# Altium schematic symbol library Wurth_Elektronik_Electromechanic_Wire_to_Board_Connectors_rev16a.SCHLIB: 662 symbols (part 7 of 10)
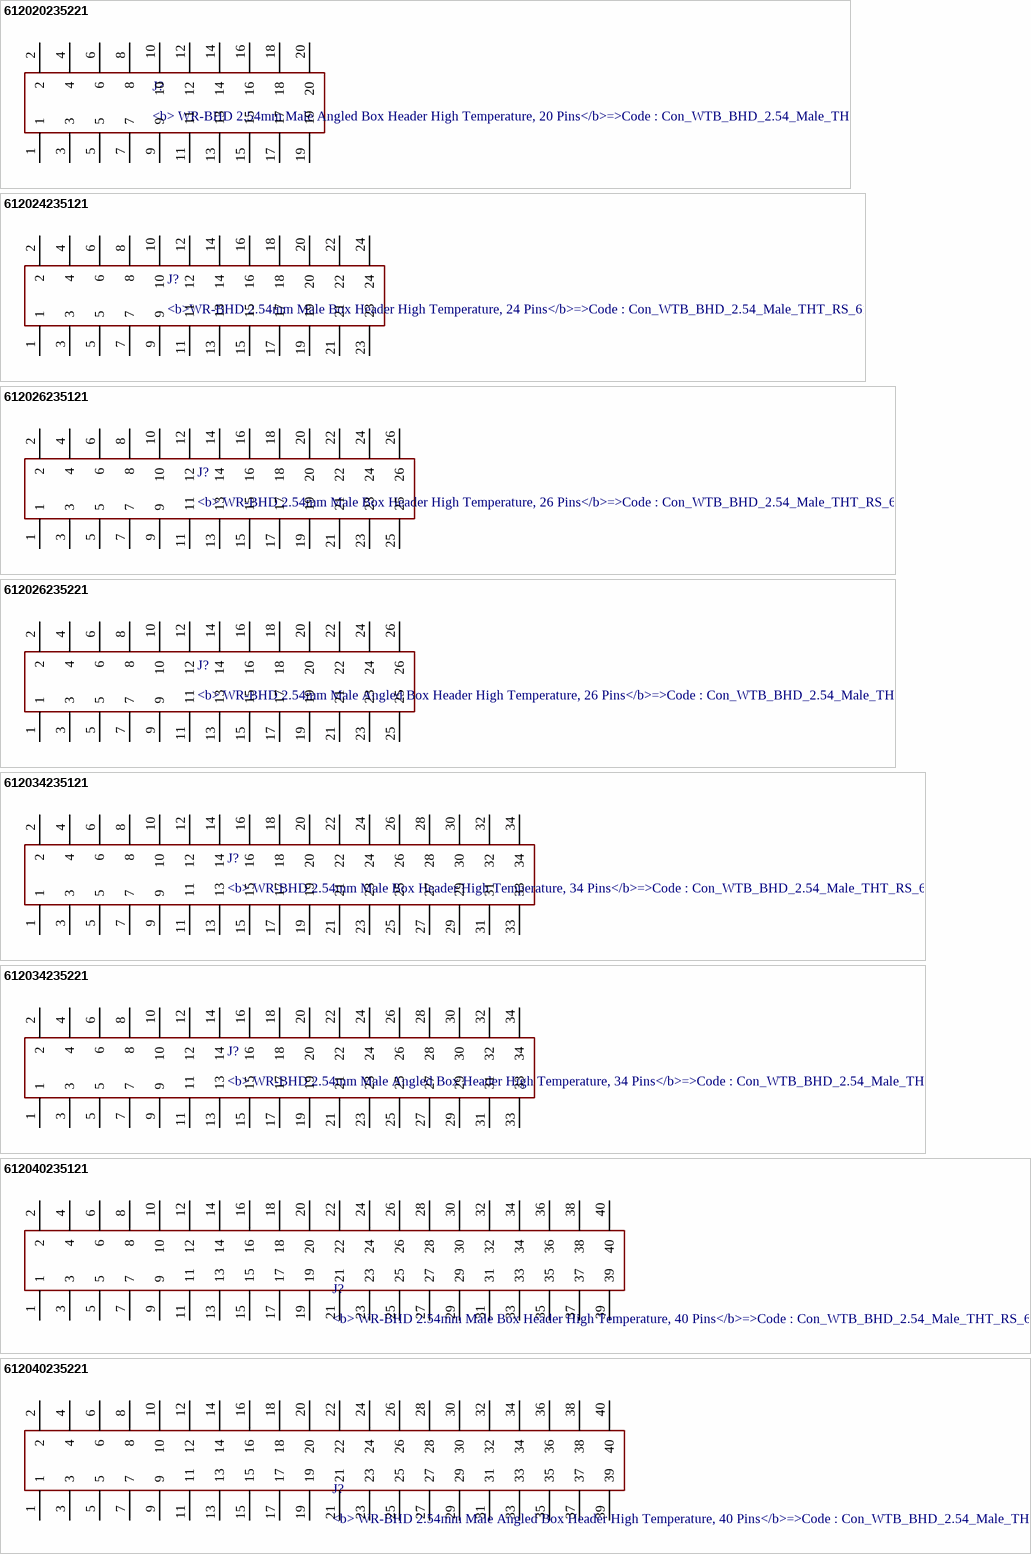
[diagram p68: symbols 612020235221 to 612040235221]

## 612024235121
designator J?, comment <b>WR-BHD 2.54mm Male Box Header High Temperature, 24 Pins</b>=>Code : Con_WTB_BHD_2.54_Male_THT_RS_612024235121 / <br><a href="http://katalog.we-online.de/media/thumbs2/eican/thb_Con_WTB_BHD_2.54_Male_THT_RS_6120xx235121_pf2.jpg" title="Enlarge picture"> / <img src="http://katalog.we-online.de/media/thumbs2/eican/thb_Con_WTB_BHD_2.54_Male_THT_RS_6120xx235121_pf2.jpg"  width="320"></a><p> / Details see: <a href="http://katalog.we-online.de/en/em/612_0xx_235_121">http://katalog.we-online.de/en/em/612_0xx_235_121</a><p> / Created 2014-06-05, Karrer Zheng<br> / 2014 (C) Würth Elektronik
footprint 612024235121
pins: 1, 2, 3, 4, 5, 6, 7, 8, 9, 10, 11, 12, 13, 14, 15, 16, 17, 18, 19, 20, 21, 22, 23, 24

## 612026235121
designator J?, comment <b> WR-BHD 2.54mm Male Box Header High Temperature, 26 Pins</b>=>Code : Con_WTB_BHD_2.54_Male_THT_RS_612026235121 / <br><a href="http://katalog.we-online.de/media/thumbs2/eican/thb_Con_WTB_BHD_2.54_Male_THT_RS_6120xx235121_pf2.jpg" title="Enlarge picture"> / <img src="http://katalog.we-online.de/media/thumbs2/eican/thb_Con_WTB_BHD_2.54_Male_THT_RS_6120xx235121_pf2.jpg"  width="320"></a><p> / Details see: <a href="http://katalog.we-online.de/en/em/612_0xx_235_121">http://katalog.we-online.de/en/em/612_0xx_235_121</a><p> / Created 2014-06-05, Karrer Zheng<br> / 2014 (C) Würth Elektronik
footprint 612026235121
pins: 1, 2, 3, 4, 5, 6, 7, 8, 9, 10, 11, 12, 13, 14, 15, 16, 17, 18, 19, 20, 21, 22, 23, 24, 25, 26

## 612026235221
designator J?, comment <b> WR-BHD 2.54mm Male Angled Box Header High Temperature, 26 Pins</b>=>Code : Con_WTB_BHD_2.54_Male_THT_RS_612026235221 / <br><a href="http://katalog.we-online.de/media/thumbs2/eican/thb_Con_WTB_BHD_2.54_Male_THT_RS_6120xx235221_pf2.jpg" title="Enlarge picture"> / <img src="http://katalog.we-online.de/media/thumbs2/eican/thb_Con_WTB_BHD_2.54_Male_THT_RS_6120xx235221_pf2.jpg"  width="320"></a><p> / Details see: <a href="http://katalog.we-online.de/en/em/612_0xx_235_221">http://katalog.we-online.de/en/em/612_0xx_235_221</a><p> / Created 2014-06-05, Karrer Zheng<br> / 2014 (C) Würth Elektronik
footprint 612026235221
pins: 1, 2, 3, 4, 5, 6, 7, 8, 9, 10, 11, 12, 13, 14, 15, 16, 17, 18, 19, 20, 21, 22, 23, 24, 25, 26

## 612034235121
designator J?, comment <b> WR-BHD 2.54mm Male Box Header High Temperature, 34 Pins</b>=>Code : Con_WTB_BHD_2.54_Male_THT_RS_612034235121 / <br><a href="http://katalog.we-online.de/media/thumbs2/eican/thb_Con_WTB_BHD_2.54_Male_THT_RS_6120xx235121_pf2.jpg" title="Enlarge picture"> / <img src="http://katalog.we-online.de/media/thumbs2/eican/thb_Con_WTB_BHD_2.54_Male_THT_RS_6120xx235121_pf2.jpg"  width="320"></a><p> / Details see: <a href="http://katalog.we-online.de/en/em/612_0xx_235_121">http://katalog.we-online.de/en/em/612_0xx_235_121</a><p> / Created 2014-06-05, Karrer Zheng<br> / 2014 (C) Würth Elektronik
footprint 612034235121
pins: 1, 2, 3, 4, 5, 6, 7, 8, 9, 10, 11, 12, 13, 14, 15, 16, 17, 18, 19, 20, 21, 22, 23, 24, 25, 26, 27, 28, 29, 30, 31, 32, 33, 34

## 612034235221
designator J?, comment <b> WR-BHD 2.54mm Male Angled Box Header High Temperature, 34 Pins</b>=>Code : Con_WTB_BHD_2.54_Male_THT_RS_612034235221 / <br><a href="http://katalog.we-online.de/media/thumbs2/eican/thb_Con_WTB_BHD_2.54_Male_THT_RS_6120xx235221_pf2.jpg" title="Enlarge picture"> / <img src="http://katalog.we-online.de/media/thumbs2/eican/thb_Con_WTB_BHD_2.54_Male_THT_RS_6120xx235221_pf2.jpg"  width="320"></a><p> / Details see: <a href="http://katalog.we-online.de/en/em/612_0xx_235_221">http://katalog.we-online.de/en/em/612_0xx_235_221</a><p> / Created 2014-06-05, Karrer Zheng<br> / 2014 (C) Würth Elektronik
footprint 612034235221
pins: 1, 2, 3, 4, 5, 6, 7, 8, 9, 10, 11, 12, 13, 14, 15, 16, 17, 18, 19, 20, 21, 22, 23, 24, 25, 26, 27, 28, 29, 30, 31, 32, 33, 34

## 612040235121
designator J?, comment <b> WR-BHD 2.54mm Male Box Header High Temperature, 40 Pins</b>=>Code : Con_WTB_BHD_2.54_Male_THT_RS_612040235121 / <br><a href="http://katalog.we-online.de/media/thumbs2/eican/thb_Con_WTB_BHD_2.54_Male_THT_RS_6120xx235121_pf2.jpg" title="Enlarge picture"> / <img src="http://katalog.we-online.de/media/thumbs2/eican/thb_Con_WTB_BHD_2.54_Male_THT_RS_6120xx235121_pf2.jpg"  width="320"></a><p> / Details see: <a href="http://katalog.we-online.de/en/em/612_0xx_235_121">http://katalog.we-online.de/en/em/612_0xx_235_121</a><p> / Created 2014-06-05, Karrer Zheng<br> / 2014 (C) Würth Elektronik
footprint 612040235121
pins: 1, 2, 3, 4, 5, 6, 7, 8, 9, 10, 11, 12, 13, 14, 15, 16, 17, 18, 19, 20, 21, 22, 23, 24, 25, 26, 27, 28, 29, 30, 31, 32, 33, 34, 35, 36, 37, 38, 39, 40

## 612040235221
designator J?, comment <b> WR-BHD 2.54mm Male Angled Box Header High Temperature, 40 Pins</b>=>Code : Con_WTB_BHD_2.54_Male_THT_RS_612040235221 / <br><a href="http://katalog.we-online.de/media/thumbs2/eican/thb_Con_WTB_BHD_2.54_Male_THT_RS_6120xx235221_pf2.jpg" title="Enlarge picture"> / <img src="http://katalog.we-online.de/media/thumbs2/eican/thb_Con_WTB_BHD_2.54_Male_THT_RS_6120xx235221_pf2.jpg"  width="320"></a><p> / Details see: <a href="http://katalog.we-online.de/en/em/612_0xx_235_221">http://katalog.we-online.de/en/em/612_0xx_235_221</a><p> / Created 2014-06-05, Karrer Zheng<br> / 2014 (C) Würth Elektronik
footprint 612040235221
pins: 1, 2, 3, 4, 5, 6, 7, 8, 9, 10, 11, 12, 13, 14, 15, 16, 17, 18, 19, 20, 21, 22, 23, 24, 25, 26, 27, 28, 29, 30, 31, 32, 33, 34, 35, 36, 37, 38, 39, 40

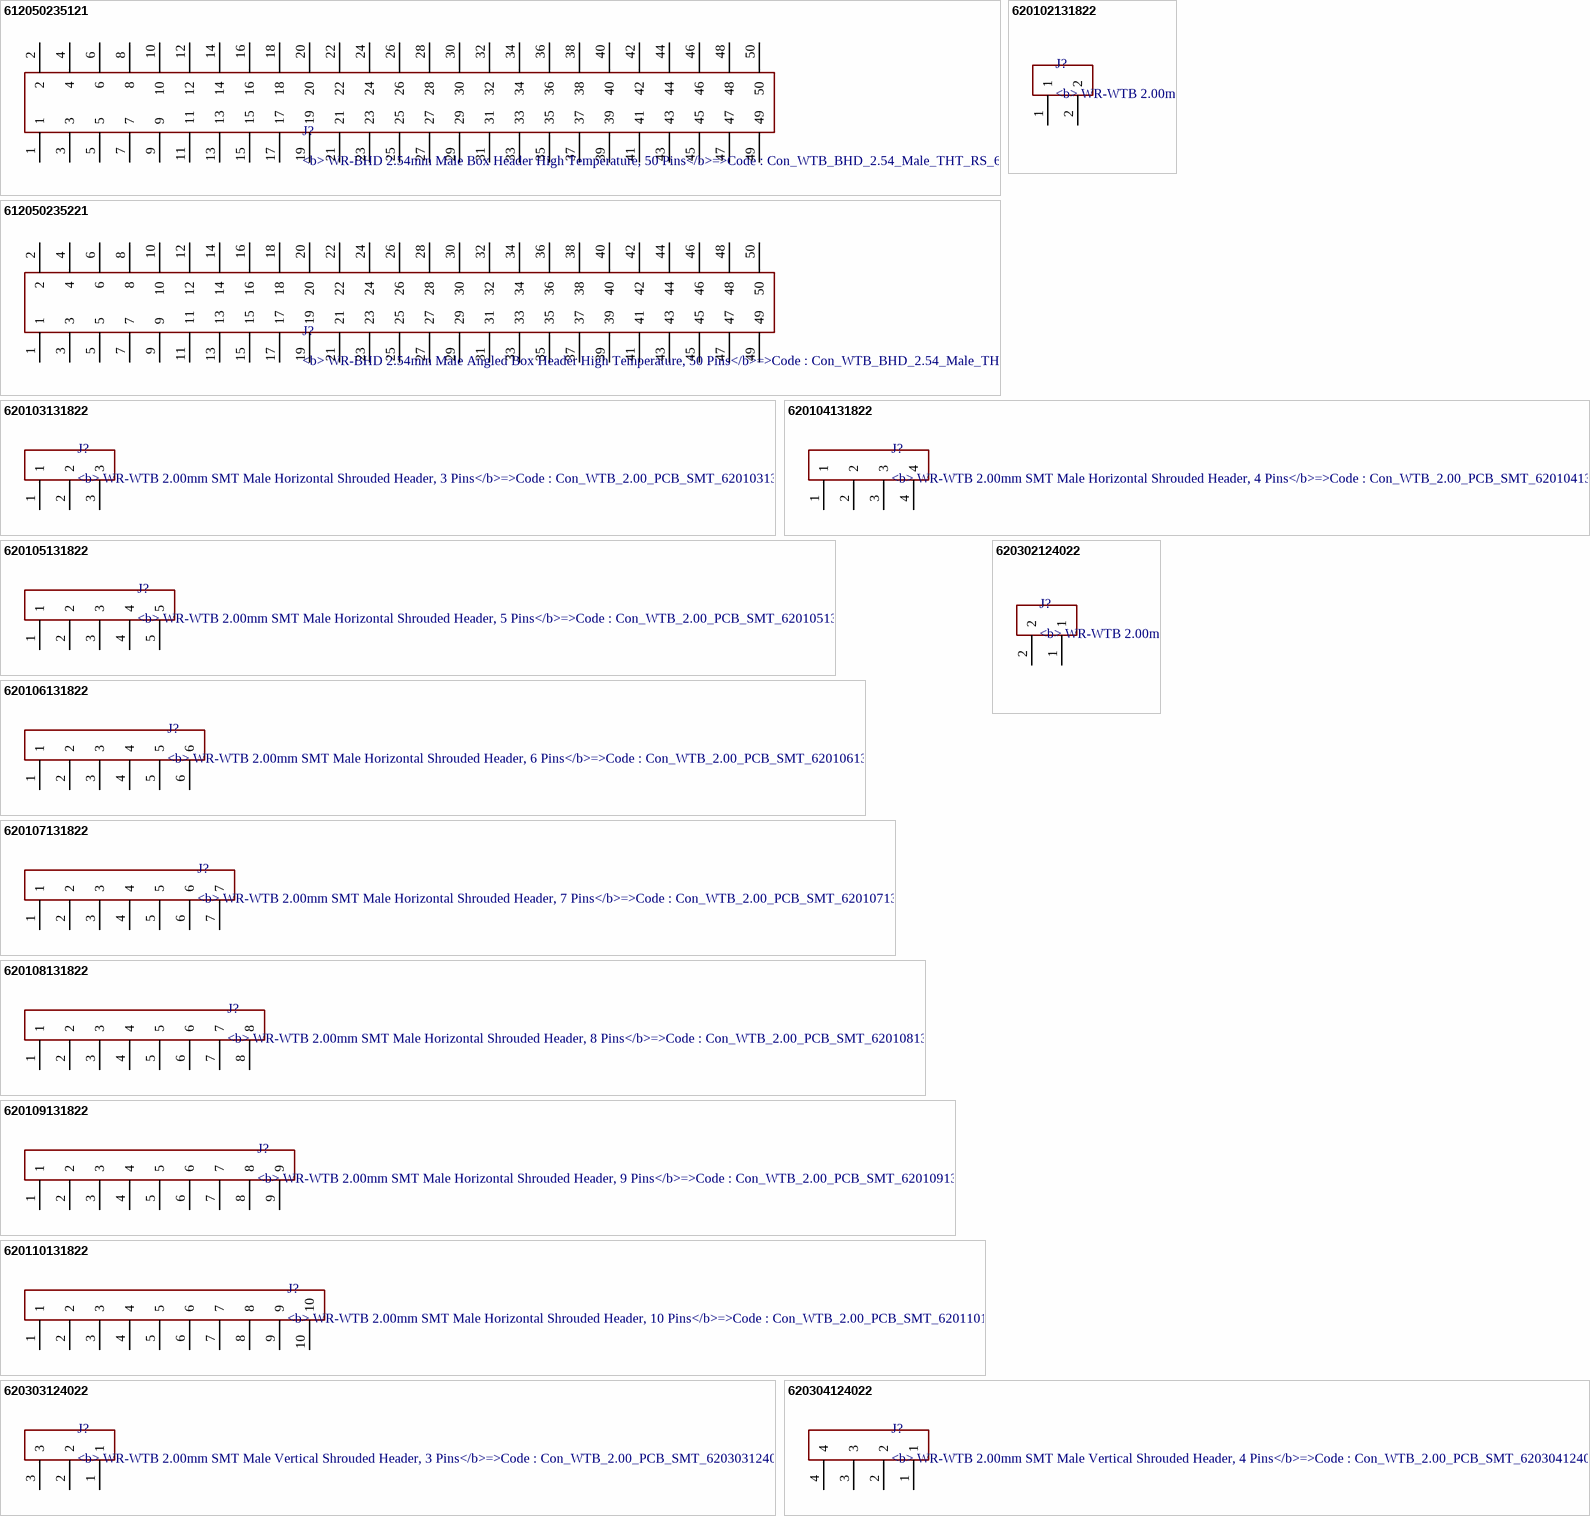
[diagram p40: symbols 612050235121 to 620304124022]

## 612050235121
designator J?, comment <b> WR-BHD 2.54mm Male Box Header High Temperature, 50 Pins</b>=>Code : Con_WTB_BHD_2.54_Male_THT_RS_612050235121 / <br><a href="http://katalog.we-online.de/media/thumbs2/eican/thb_Con_WTB_BHD_2.54_Male_THT_RS_6120xx235121_pf2.jpg" title="Enlarge picture"> / <img src="http://katalog.we-online.de/media/thumbs2/eican/thb_Con_WTB_BHD_2.54_Male_THT_RS_6120xx235121_pf2.jpg"  width="320"></a><p> / Details see: <a href="http://katalog.we-online.de/en/em/612_0xx_235_121">http://katalog.we-online.de/en/em/612_0xx_235_121</a><p> / Created 2014-06-05, Karrer Zheng<br> / 2014 (C) Würth Elektronik
footprint 612050235121
pins: 1, 2, 3, 4, 5, 6, 7, 8, 9, 10, 11, 12, 13, 14, 15, 16, 17, 18, 19, 20, 21, 22, 23, 24, 25, 26, 27, 28, 29, 30, 31, 32, 33, 34, 35, 36, 37, 38, 39, 40, 41, 42, 43, 44, 45, 46, 47, 48, 49, 50

## 612050235221
designator J?, comment <b> WR-BHD 2.54mm Male Angled Box Header High Temperature, 50 Pins</b>=>Code : Con_WTB_BHD_2.54_Male_THT_RS_612050235221 / <br><a href="http://katalog.we-online.de/media/thumbs2/eican/thb_Con_WTB_BHD_2.54_Male_THT_RS_6120xx235221_pf2.jpg" title="Enlarge picture"> / <img src="http://katalog.we-online.de/media/thumbs2/eican/thb_Con_WTB_BHD_2.54_Male_THT_RS_6120xx235221_pf2.jpg"  width="320"></a><p> / Details see: <a href="http://katalog.we-online.de/en/em/612_0xx_235_221">http://katalog.we-online.de/en/em/612_0xx_235_221</a><p> / Created 2014-06-05, Karrer Zheng<br> / 2014 (C) Würth Elektronik
footprint 612050235221
pins: 1, 2, 3, 4, 5, 6, 7, 8, 9, 10, 11, 12, 13, 14, 15, 16, 17, 18, 19, 20, 21, 22, 23, 24, 25, 26, 27, 28, 29, 30, 31, 32, 33, 34, 35, 36, 37, 38, 39, 40, 41, 42, 43, 44, 45, 46, 47, 48, 49, 50

## 620102131822
designator J?, comment <b> WR-WTB 2.00mm SMT Male Horizontal Shrouded Header, 2 Pins</b>=>Code : Con_WTB_2.00_PCB_SMT_620102131822 / <br><a href="http://katalog.we-online.de/media/thumbs2/eican/thb_Con_WTB_2.00_PCB_SMT_6201xx131822_pf2.jpg" title="Enlarge picture"> / <img src="http://katalog.we-online.de/media/thumbs2/eican/thb_Con_WTB_2.00_PCB_SMT_6201xx131822_pf2.jpg"  width="320"></a><p> / Details see: <a href="http://katalog.we-online.de/en/em/620_1xx_131_822">http://katalog.we-online.de/en/em/620_1xx_131_822</a><p> / Created 2014-06-05, Karrer Zheng<br> / 2014 (C) Würth Elektronik
footprint 620102131822
pins: 1, 2

## 620103131822
designator J?, comment <b> WR-WTB 2.00mm SMT Male Horizontal Shrouded Header, 3 Pins</b>=>Code : Con_WTB_2.00_PCB_SMT_620103131822 / <br><a href="http://katalog.we-online.de/media/thumbs2/eican/thb_Con_WTB_2.00_PCB_SMT_6201xx131822_pf2.jpg" title="Enlarge picture"> / <img src="http://katalog.we-online.de/media/thumbs2/eican/thb_Con_WTB_2.00_PCB_SMT_6201xx131822_pf2.jpg"  width="320"></a><p> / Details see: <a href="http://katalog.we-online.de/en/em/620_1xx_131_822">http://katalog.we-online.de/en/em/620_1xx_131_822</a><p> / Created 2014-06-05, Karrer Zheng<br> / 2014 (C) Würth Elektronik
footprint 620103131822
pins: 1, 2, 3

## 620104131822
designator J?, comment <b> WR-WTB 2.00mm SMT Male Horizontal Shrouded Header, 4 Pins</b>=>Code : Con_WTB_2.00_PCB_SMT_620104131822 / <br><a href="http://katalog.we-online.de/media/thumbs2/eican/thb_Con_WTB_2.00_PCB_SMT_6201xx131822_pf2.jpg" title="Enlarge picture"> / <img src="http://katalog.we-online.de/media/thumbs2/eican/thb_Con_WTB_2.00_PCB_SMT_6201xx131822_pf2.jpg"  width="320"></a><p> / Details see: <a href="http://katalog.we-online.de/en/em/620_1xx_131_822">http://katalog.we-online.de/en/em/620_1xx_131_822</a><p> / Created 2014-06-05, Karrer Zheng<br> / 2014 (C) Würth Elektronik
footprint 620104131822
pins: 1, 2, 3, 4

## 620105131822
designator J?, comment <b> WR-WTB 2.00mm SMT Male Horizontal Shrouded Header, 5 Pins</b>=>Code : Con_WTB_2.00_PCB_SMT_620105131822 / <br><a href="http://katalog.we-online.de/media/thumbs2/eican/thb_Con_WTB_2.00_PCB_SMT_6201xx131822_pf2.jpg" title="Enlarge picture"> / <img src="http://katalog.we-online.de/media/thumbs2/eican/thb_Con_WTB_2.00_PCB_SMT_6201xx131822_pf2.jpg"  width="320"></a><p> / Details see: <a href="http://katalog.we-online.de/en/em/620_1xx_131_822">http://katalog.we-online.de/en/em/620_1xx_131_822</a><p> / Created 2014-06-05, Karrer Zheng<br> / 2014 (C) Würth Elektronik
footprint 620105131822
pins: 1, 2, 3, 4, 5

## 620106131822
designator J?, comment <b> WR-WTB 2.00mm SMT Male Horizontal Shrouded Header, 6 Pins</b>=>Code : Con_WTB_2.00_PCB_SMT_620106131822 / <br><a href="http://katalog.we-online.de/media/thumbs2/eican/thb_Con_WTB_2.00_PCB_SMT_6201xx131822_pf2.jpg" title="Enlarge picture"> / <img src="http://katalog.we-online.de/media/thumbs2/eican/thb_Con_WTB_2.00_PCB_SMT_6201xx131822_pf2.jpg"  width="320"></a><p> / Details see: <a href="http://katalog.we-online.de/en/em/620_1xx_131_822">http://katalog.we-online.de/en/em/620_1xx_131_822</a><p> / Created 2014-06-05, Karrer Zheng<br> / 2014 (C) Würth Elektronik
footprint 620106131822
pins: 1, 2, 3, 4, 5, 6

## 620107131822
designator J?, comment <b> WR-WTB 2.00mm SMT Male Horizontal Shrouded Header, 7 Pins</b>=>Code : Con_WTB_2.00_PCB_SMT_620107131822 / <br><a href="http://katalog.we-online.de/media/thumbs2/eican/thb_Con_WTB_2.00_PCB_SMT_6201xx131822_pf2.jpg" title="Enlarge picture"> / <img src="http://katalog.we-online.de/media/thumbs2/eican/thb_Con_WTB_2.00_PCB_SMT_6201xx131822_pf2.jpg"  width="320"></a><p> / Details see: <a href="http://katalog.we-online.de/en/em/620_1xx_131_822">http://katalog.we-online.de/en/em/620_1xx_131_822</a><p> / Created 2014-06-05, Karrer Zheng<br> / 2014 (C) Würth Elektronik
footprint 620107131822
pins: 1, 2, 3, 4, 5, 6, 7

## 620108131822
designator J?, comment <b> WR-WTB 2.00mm SMT Male Horizontal Shrouded Header, 8 Pins</b>=>Code : Con_WTB_2.00_PCB_SMT_620108131822 / <br><a href="http://katalog.we-online.de/media/thumbs2/eican/thb_Con_WTB_2.00_PCB_SMT_6201xx131822_pf2.jpg" title="Enlarge picture"> / <img src="http://katalog.we-online.de/media/thumbs2/eican/thb_Con_WTB_2.00_PCB_SMT_6201xx131822_pf2.jpg"  width="320"></a><p> / Details see: <a href="http://katalog.we-online.de/en/em/620_1xx_131_822">http://katalog.we-online.de/en/em/620_1xx_131_822</a><p> / Created 2014-06-05, Karrer Zheng<br> / 2014 (C) Würth Elektronik
footprint 620108131822
pins: 1, 2, 3, 4, 5, 6, 7, 8

## 620109131822
designator J?, comment <b> WR-WTB 2.00mm SMT Male Horizontal Shrouded Header, 9 Pins</b>=>Code : Con_WTB_2.00_PCB_SMT_620109131822 / <br><a href="http://katalog.we-online.de/media/thumbs2/eican/thb_Con_WTB_2.00_PCB_SMT_6201xx131822_pf2.jpg" title="Enlarge picture"> / <img src="http://katalog.we-online.de/media/thumbs2/eican/thb_Con_WTB_2.00_PCB_SMT_6201xx131822_pf2.jpg"  width="320"></a><p> / Details see: <a href="http://katalog.we-online.de/en/em/620_1xx_131_822">http://katalog.we-online.de/en/em/620_1xx_131_822</a><p> / Created 2014-06-05, Karrer Zheng<br> / 2014 (C) Würth Elektronik
footprint 620109131822
pins: 1, 2, 3, 4, 5, 6, 7, 8, 9

## 620110131822
designator J?, comment <b> WR-WTB 2.00mm SMT Male Horizontal Shrouded Header, 10 Pins</b>=>Code : Con_WTB_2.00_PCB_SMT_620110131822 / <br><a href="http://katalog.we-online.de/media/thumbs2/eican/thb_Con_WTB_2.00_PCB_SMT_6201xx131822_pf2.jpg" title="Enlarge picture"> / <img src="http://katalog.we-online.de/media/thumbs2/eican/thb_Con_WTB_2.00_PCB_SMT_6201xx131822_pf2.jpg"  width="320"></a><p> / Details see: <a href="http://katalog.we-online.de/en/em/620_1xx_131_822">http://katalog.we-online.de/en/em/620_1xx_131_822</a><p> / Created 2014-06-05, Karrer Zheng<br> / 2014 (C) Würth Elektronik
footprint 620110131822
pins: 1, 2, 3, 4, 5, 6, 7, 8, 9, 10

## 620302124022
designator J?, comment <b> WR-WTB 2.00mm SMT Male Vertical Shrouded Header, 2 Pins</b>=>Code : Con_WTB_2.00_PCB_SMT_620302124022 / <br><a href="http://katalog.we-online.de/media/thumbs2/eican/thb_Con_WTB_2.00_PCB_SMT_6203xx124022_pf2.jpg" title="Enlarge picture"> / <img src="http://katalog.we-online.de/media/thumbs2/eican/thb_Con_WTB_2.00_PCB_SMT_6203xx124022_pf2.jpg"  width="320"></a><p> / Details see: <a href="http://katalog.we-online.de/en/em/620_3xx_124_022">http://katalog.we-online.de/en/em/620_3xx_124_022</a><p> / Created 2014-06-05, Karrer Zheng<br> / 2014 (C) Würth Elektronik
footprint 620302124022
pins: 1, 2

## 620303124022
designator J?, comment <b> WR-WTB 2.00mm SMT Male Vertical Shrouded Header, 3 Pins</b>=>Code : Con_WTB_2.00_PCB_SMT_620303124022 / <br><a href="http://katalog.we-online.de/media/thumbs2/eican/thb_Con_WTB_2.00_PCB_SMT_6203xx124022_pf2.jpg" title="Enlarge picture"> / <img src="http://katalog.we-online.de/media/thumbs2/eican/thb_Con_WTB_2.00_PCB_SMT_6203xx124022_pf2.jpg"  width="320"></a><p> / Details see: <a href="http://katalog.we-online.de/en/em/620_3xx_124_022">http://katalog.we-online.de/en/em/620_3xx_124_022</a><p> / Created 2014-06-05, Karrer Zheng<br> / 2014 (C) Würth Elektronik
footprint 620303124022
pins: 1, 2, 3

## 620304124022
designator J?, comment <b> WR-WTB 2.00mm SMT Male Vertical Shrouded Header, 4 Pins</b>=>Code : Con_WTB_2.00_PCB_SMT_620304124022 / <br><a href="http://katalog.we-online.de/media/thumbs2/eican/thb_Con_WTB_2.00_PCB_SMT_6203xx124022_pf2.jpg" title="Enlarge picture"> / <img src="http://katalog.we-online.de/media/thumbs2/eican/thb_Con_WTB_2.00_PCB_SMT_6203xx124022_pf2.jpg"  width="320"></a><p> / Details see: <a href="http://katalog.we-online.de/en/em/620_3xx_124_022">http://katalog.we-online.de/en/em/620_3xx_124_022</a><p> / Created 2014-06-05, Karrer Zheng<br> / 2014 (C) Würth Elektronik
footprint 620304124022
pins: 1, 2, 3, 4

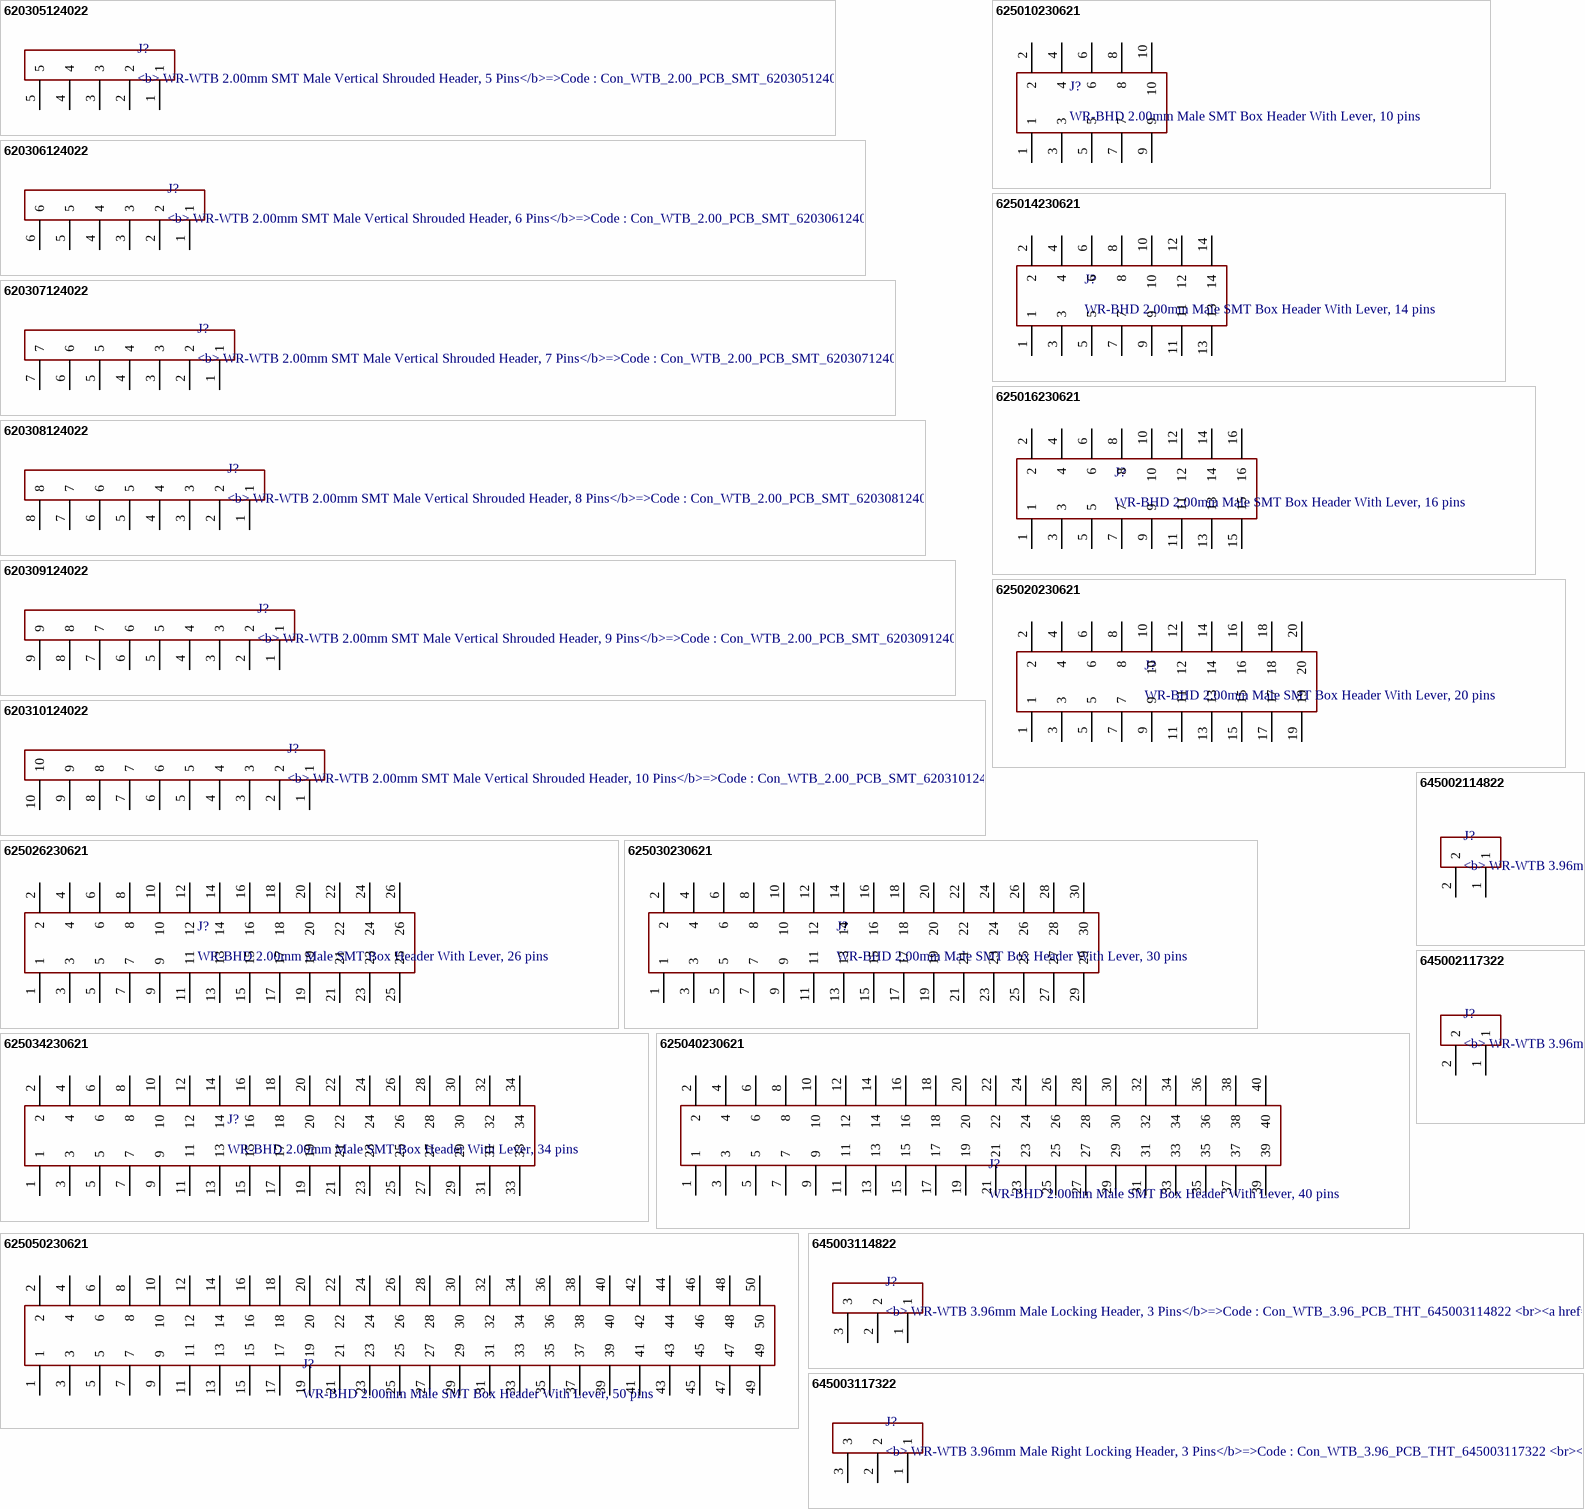
[diagram p41: symbols 620305124022 to 645003117322]

## 620305124022
designator J?, comment <b> WR-WTB 2.00mm SMT Male Vertical Shrouded Header, 5 Pins</b>=>Code : Con_WTB_2.00_PCB_SMT_620305124022 / <br><a href="http://katalog.we-online.de/media/thumbs2/eican/thb_Con_WTB_2.00_PCB_SMT_6203xx124022_pf2.jpg" title="Enlarge picture"> / <img src="http://katalog.we-online.de/media/thumbs2/eican/thb_Con_WTB_2.00_PCB_SMT_6203xx124022_pf2.jpg"  width="320"></a><p> / Details see: <a href="http://katalog.we-online.de/en/em/620_3xx_124_022">http://katalog.we-online.de/en/em/620_3xx_124_022</a><p> / Created 2014-06-05, Karrer Zheng<br> / 2014 (C) Würth Elektronik
footprint 620305124022
pins: 1, 2, 3, 4, 5

## 620306124022
designator J?, comment <b> WR-WTB 2.00mm SMT Male Vertical Shrouded Header, 6 Pins</b>=>Code : Con_WTB_2.00_PCB_SMT_620306124022 / <br><a href="http://katalog.we-online.de/media/thumbs2/eican/thb_Con_WTB_2.00_PCB_SMT_6203xx124022_pf2.jpg" title="Enlarge picture"> / <img src="http://katalog.we-online.de/media/thumbs2/eican/thb_Con_WTB_2.00_PCB_SMT_6203xx124022_pf2.jpg"  width="320"></a><p> / Details see: <a href="http://katalog.we-online.de/en/em/620_3xx_124_022">http://katalog.we-online.de/en/em/620_3xx_124_022</a><p> / Created 2014-06-05, Karrer Zheng<br> / 2014 (C) Würth Elektronik
footprint 620306124022
pins: 1, 2, 3, 4, 5, 6

## 620307124022
designator J?, comment <b> WR-WTB 2.00mm SMT Male Vertical Shrouded Header, 7 Pins</b>=>Code : Con_WTB_2.00_PCB_SMT_620307124022 / <br><a href="http://katalog.we-online.de/media/thumbs2/eican/thb_Con_WTB_2.00_PCB_SMT_6203xx124022_pf2.jpg" title="Enlarge picture"> / <img src="http://katalog.we-online.de/media/thumbs2/eican/thb_Con_WTB_2.00_PCB_SMT_6203xx124022_pf2.jpg"  width="320"></a><p> / Details see: <a href="http://katalog.we-online.de/en/em/620_3xx_124_022">http://katalog.we-online.de/en/em/620_3xx_124_022</a><p> / Created 2014-06-05, Karrer Zheng<br> / 2014 (C) Würth Elektronik
footprint 620307124022
pins: 1, 2, 3, 4, 5, 6, 7

## 620308124022
designator J?, comment <b> WR-WTB 2.00mm SMT Male Vertical Shrouded Header, 8 Pins</b>=>Code : Con_WTB_2.00_PCB_SMT_620308124022 / <br><a href="http://katalog.we-online.de/media/thumbs2/eican/thb_Con_WTB_2.00_PCB_SMT_6203xx124022_pf2.jpg" title="Enlarge picture"> / <img src="http://katalog.we-online.de/media/thumbs2/eican/thb_Con_WTB_2.00_PCB_SMT_6203xx124022_pf2.jpg"  width="320"></a><p> / Details see: <a href="http://katalog.we-online.de/en/em/620_3xx_124_022">http://katalog.we-online.de/en/em/620_3xx_124_022</a><p> / Created 2014-06-05, Karrer Zheng<br> / 2014 (C) Würth Elektronik
footprint 620308124022
pins: 1, 2, 3, 4, 5, 6, 7, 8

## 620309124022
designator J?, comment <b> WR-WTB 2.00mm SMT Male Vertical Shrouded Header, 9 Pins</b>=>Code : Con_WTB_2.00_PCB_SMT_620309124022 / <br><a href="http://katalog.we-online.de/media/thumbs2/eican/thb_Con_WTB_2.00_PCB_SMT_6203xx124022_pf2.jpg" title="Enlarge picture"> / <img src="http://katalog.we-online.de/media/thumbs2/eican/thb_Con_WTB_2.00_PCB_SMT_6203xx124022_pf2.jpg"  width="320"></a><p> / Details see: <a href="http://katalog.we-online.de/en/em/620_3xx_124_022">http://katalog.we-online.de/en/em/620_3xx_124_022</a><p> / Created 2014-06-05, Karrer Zheng<br> / 2014 (C) Würth Elektronik
footprint 620309124022
pins: 1, 2, 3, 4, 5, 6, 7, 8, 9

## 620310124022
designator J?, comment <b> WR-WTB 2.00mm SMT Male Vertical Shrouded Header, 10 Pins</b>=>Code : Con_WTB_2.00_PCB_SMT_620310124022 / <br><a href="http://katalog.we-online.de/media/thumbs2/eican/thb_Con_WTB_2.00_PCB_SMT_6203xx124022_pf2.jpg" title="Enlarge picture"> / <img src="http://katalog.we-online.de/media/thumbs2/eican/thb_Con_WTB_2.00_PCB_SMT_6203xx124022_pf2.jpg"  width="320"></a><p> / Details see: <a href="http://katalog.we-online.de/en/em/620_3xx_124_022">http://katalog.we-online.de/en/em/620_3xx_124_022</a><p> / Created 2014-06-05, Karrer Zheng<br> / 2014 (C) Würth Elektronik
footprint 620310124022
pins: 1, 2, 3, 4, 5, 6, 7, 8, 9, 10

## 625010230621
designator J?, comment WR-BHD 2.00mm Male SMT Box Header With Lever, 10 pins
footprint 625010230621
pins: 1, 2, 3, 4, 5, 6, 7, 8, 9, 10

## 625014230621
designator J?, comment WR-BHD 2.00mm Male SMT Box Header With Lever, 14 pins
footprint 625014230621
pins: 1, 2, 3, 4, 5, 6, 7, 8, 9, 10, 11, 12, 13, 14

## 625016230621
designator J?, comment WR-BHD 2.00mm Male SMT Box Header With Lever, 16 pins
footprint 625016230621
pins: 1, 2, 3, 4, 5, 6, 7, 8, 9, 10, 11, 12, 13, 14, 15, 16

## 625020230621
designator J?, comment WR-BHD 2.00mm Male SMT Box Header With Lever, 20 pins
footprint 625020230621
pins: 1, 2, 3, 4, 5, 6, 7, 8, 9, 10, 11, 12, 13, 14, 15, 16, 17, 18, 19, 20

## 625026230621
designator J?, comment WR-BHD 2.00mm Male SMT Box Header With Lever, 26 pins
footprint 625026230621
pins: 1, 2, 3, 4, 5, 6, 7, 8, 9, 10, 11, 12, 13, 14, 15, 16, 17, 18, 19, 20, 21, 22, 23, 24, 25, 26

## 625030230621
designator J?, comment WR-BHD 2.00mm Male SMT Box Header With Lever, 30 pins
footprint 625030230621
pins: 1, 2, 3, 4, 5, 6, 7, 8, 9, 10, 11, 12, 13, 14, 15, 16, 17, 18, 19, 20, 21, 22, 23, 24, 25, 26, 27, 28, 29, 30

## 625034230621
designator J?, comment WR-BHD 2.00mm Male SMT Box Header With Lever, 34 pins
footprint 625034230621
pins: 1, 2, 3, 4, 5, 6, 7, 8, 9, 10, 11, 12, 13, 14, 15, 16, 17, 18, 19, 20, 21, 22, 23, 24, 25, 26, 27, 28, 29, 30, 31, 32, 33, 34

## 625040230621
designator J?, comment WR-BHD 2.00mm Male SMT Box Header With Lever, 40 pins
footprint 625040230621
pins: 1, 2, 3, 4, 5, 6, 7, 8, 9, 10, 11, 12, 13, 14, 15, 16, 17, 18, 19, 20, 21, 22, 23, 24, 25, 26, 27, 28, 29, 30, 31, 32, 33, 34, 35, 36, 37, 38, 39, 40

## 625050230621
designator J?, comment WR-BHD 2.00mm Male SMT Box Header With Lever, 50 pins
footprint 625050230621
pins: 1, 2, 3, 4, 5, 6, 7, 8, 9, 10, 11, 12, 13, 14, 15, 16, 17, 18, 19, 20, 21, 22, 23, 24, 25, 26, 27, 28, 29, 30, 31, 32, 33, 34, 35, 36, 37, 38, 39, 40, 41, 42, 43, 44, 45, 46, 47, 48, 49, 50

## 645002114822
designator J?, comment <b> WR-WTB 3.96mm Male Locking Header, 2 Pins</b>=>Code : Con_WTB_3.96_PCB_THT_645002114822 / <br><a href="http://katalog.we-online.de/media/thumbs2/eican/thb_Con_WTB_3.96_PCB_THT_6450xx114822_pf2.jpg" title="Enlarge picture"> / <img src="http://katalog.we-online.de/media/thumbs2/eican/thb_Con_WTB_3.96_PCB_THT_6450xx114822_pf2.jpg"  width="320"></a><p> / Details see: <a href="http://katalog.we-online.de/en/em/645_0xx_114_822">http://katalog.we-online.de/en/em/645_0xx_114_822</a><p> / Created 2014-06-05, Karrer Zheng<br> / 2014 (C) Würth Elektronik
footprint 645002114822
pins: 1, 2

## 645002117322
designator J?, comment <b> WR-WTB 3.96mm Male Right Locking Header, 2 Pins</b>=>Code : Con_WTB_3.96_PCB_THT_645002117322 / <br><a href="http://katalog.we-online.de/media/thumbs2/eican/thb_Con_WTB_3.96_PCB_THT_6450xx117322_pf2.jpg" title="Enlarge picture"> / <img src="http://katalog.we-online.de/media/thumbs2/eican/thb_Con_WTB_3.96_PCB_THT_6450xx117322_pf2.jpg"  width="320"></a><p> / Details see: <a href="http://katalog.we-online.de/en/em/645_0xx_117_322">http://katalog.we-online.de/en/em/645_0xx_117_322</a><p> / Created 2014-06-05, Karrer Zheng<br> / 2014 (C) Würth Elektronik
footprint 645002117322
pins: 1, 2

## 645003114822
designator J?, comment <b> WR-WTB 3.96mm Male Locking Header, 3 Pins</b>=>Code : Con_WTB_3.96_PCB_THT_645003114822 / <br><a href="http://katalog.we-online.de/media/thumbs2/eican/thb_Con_WTB_3.96_PCB_THT_6450xx114822_pf2.jpg" title="Enlarge picture"> / <img src="http://katalog.we-online.de/media/thumbs2/eican/thb_Con_WTB_3.96_PCB_THT_6450xx114822_pf2.jpg"  width="320"></a><p> / Details see: <a href="http://katalog.we-online.de/en/em/645_0xx_114_822">http://katalog.we-online.de/en/em/645_0xx_114_822</a><p> / Created 2014-06-05, Karrer Zheng<br> / 2014 (C) Würth Elektronik
footprint 645003114822
pins: 1, 2, 3

## 645003117322
designator J?, comment <b> WR-WTB 3.96mm Male Right Locking Header, 3 Pins</b>=>Code : Con_WTB_3.96_PCB_THT_645003117322 / <br><a href="http://katalog.we-online.de/media/thumbs2/eican/thb_Con_WTB_3.96_PCB_THT_6450xx117322_pf2.jpg" title="Enlarge picture"> / <img src="http://katalog.we-online.de/media/thumbs2/eican/thb_Con_WTB_3.96_PCB_THT_6450xx117322_pf2.jpg"  width="320"></a><p> / Details see: <a href="http://katalog.we-online.de/en/em/645_0xx_117_322">http://katalog.we-online.de/en/em/645_0xx_117_322</a><p> / Created 2014-06-05, Karrer Zheng<br> / 2014 (C) Würth Elektronik
footprint 645003117322
pins: 1, 2, 3

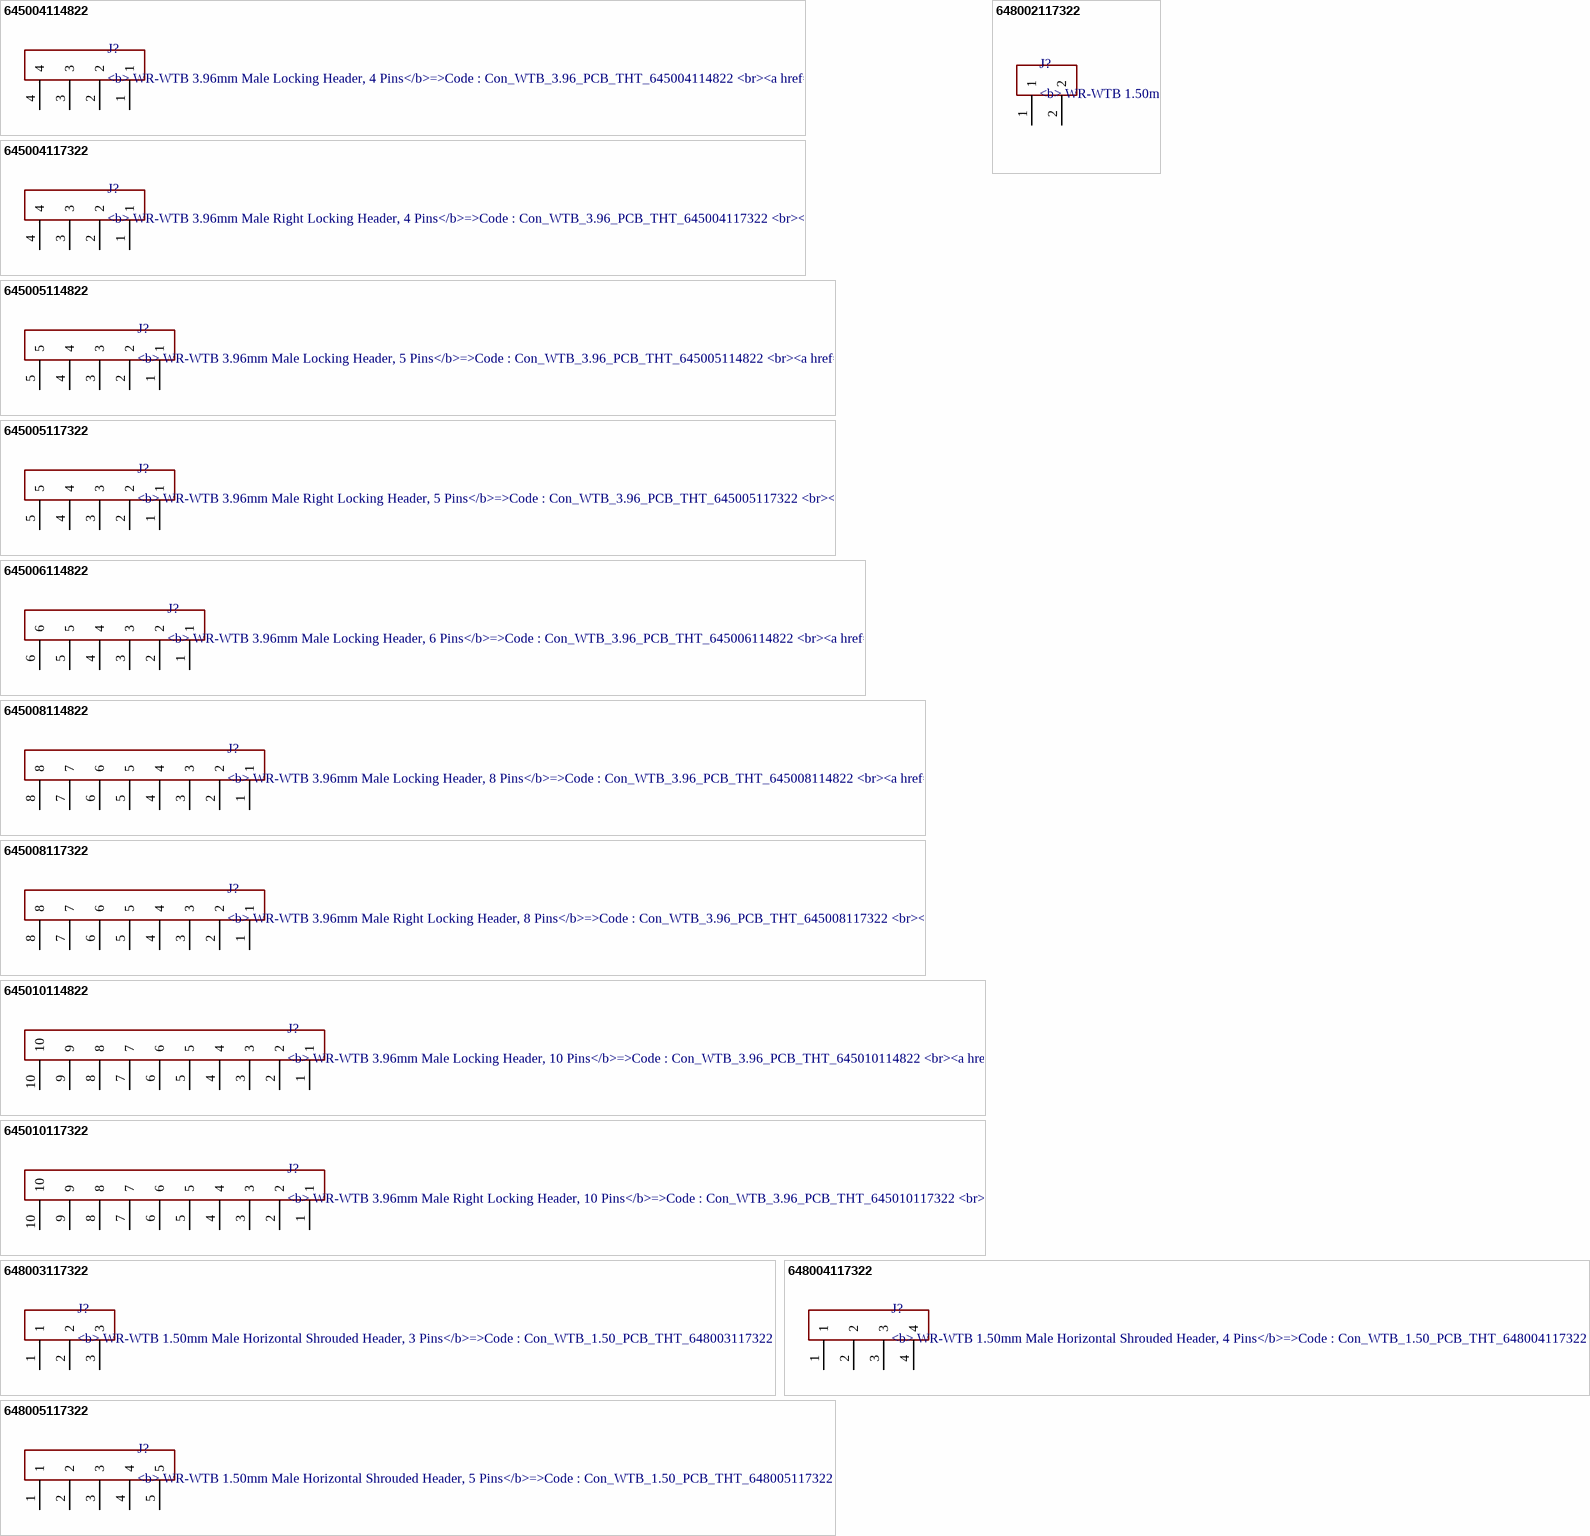
[diagram p42: symbols 645004114822 to 648005117322]

## 645004114822
designator J?, comment <b> WR-WTB 3.96mm Male Locking Header, 4 Pins</b>=>Code : Con_WTB_3.96_PCB_THT_645004114822 / <br><a href="http://katalog.we-online.de/media/thumbs2/eican/thb_Con_WTB_3.96_PCB_THT_6450xx114822_pf2.jpg" title="Enlarge picture"> / <img src="http://katalog.we-online.de/media/thumbs2/eican/thb_Con_WTB_3.96_PCB_THT_6450xx114822_pf2.jpg"  width="320"></a><p> / Details see: <a href="http://katalog.we-online.de/en/em/645_0xx_114_822">http://katalog.we-online.de/en/em/645_0xx_114_822</a><p> / Created 2014-06-05, Karrer Zheng<br> / 2014 (C) Würth Elektronik
footprint 645004114822
pins: 1, 2, 3, 4

## 645004117322
designator J?, comment <b> WR-WTB 3.96mm Male Right Locking Header, 4 Pins</b>=>Code : Con_WTB_3.96_PCB_THT_645004117322 / <br><a href="http://katalog.we-online.de/media/thumbs2/eican/thb_Con_WTB_3.96_PCB_THT_6450xx117322_pf2.jpg" title="Enlarge picture"> / <img src="http://katalog.we-online.de/media/thumbs2/eican/thb_Con_WTB_3.96_PCB_THT_6450xx117322_pf2.jpg"  width="320"></a><p> / Details see: <a href="http://katalog.we-online.de/en/em/645_0xx_117_322">http://katalog.we-online.de/en/em/645_0xx_117_322</a><p> / Created 2014-06-05, Karrer Zheng<br> / 2014 (C) Würth Elektronik
footprint 645004117322
pins: 1, 2, 3, 4

## 645005114822
designator J?, comment <b> WR-WTB 3.96mm Male Locking Header, 5 Pins</b>=>Code : Con_WTB_3.96_PCB_THT_645005114822 / <br><a href="http://katalog.we-online.de/media/thumbs2/eican/thb_Con_WTB_3.96_PCB_THT_6450xx114822_pf2.jpg" title="Enlarge picture"> / <img src="http://katalog.we-online.de/media/thumbs2/eican/thb_Con_WTB_3.96_PCB_THT_6450xx114822_pf2.jpg"  width="320"></a><p> / Details see: <a href="http://katalog.we-online.de/en/em/645_0xx_114_822">http://katalog.we-online.de/en/em/645_0xx_114_822</a><p> / Created 2014-06-05, Karrer Zheng<br> / 2014 (C) Würth Elektronik
footprint 645005114822
pins: 1, 2, 3, 4, 5

## 645005117322
designator J?, comment <b> WR-WTB 3.96mm Male Right Locking Header, 5 Pins</b>=>Code : Con_WTB_3.96_PCB_THT_645005117322 / <br><a href="http://katalog.we-online.de/media/thumbs2/eican/thb_Con_WTB_3.96_PCB_THT_6450xx117322_pf2.jpg" title="Enlarge picture"> / <img src="http://katalog.we-online.de/media/thumbs2/eican/thb_Con_WTB_3.96_PCB_THT_6450xx117322_pf2.jpg"  width="320"></a><p> / Details see: <a href="http://katalog.we-online.de/en/em/645_0xx_117_322">http://katalog.we-online.de/en/em/645_0xx_117_322</a><p> / Created 2014-06-05, Karrer Zheng<br> / 2014 (C) Würth Elektronik
footprint 645005117322
pins: 1, 2, 3, 4, 5

## 645006114822
designator J?, comment <b> WR-WTB 3.96mm Male Locking Header, 6 Pins</b>=>Code : Con_WTB_3.96_PCB_THT_645006114822 / <br><a href="http://katalog.we-online.de/media/thumbs2/eican/thb_Con_WTB_3.96_PCB_THT_6450xx114822_pf2.jpg" title="Enlarge picture"> / <img src="http://katalog.we-online.de/media/thumbs2/eican/thb_Con_WTB_3.96_PCB_THT_6450xx114822_pf2.jpg"  width="320"></a><p> / Details see: <a href="http://katalog.we-online.de/en/em/645_0xx_114_822">http://katalog.we-online.de/en/em/645_0xx_114_822</a><p> / Created 2014-06-05, Karrer Zheng<br> / 2014 (C) Würth Elektronik
footprint 645006114822
pins: 1, 2, 3, 4, 5, 6

## 645008114822
designator J?, comment <b> WR-WTB 3.96mm Male Locking Header, 8 Pins</b>=>Code : Con_WTB_3.96_PCB_THT_645008114822 / <br><a href="http://katalog.we-online.de/media/thumbs2/eican/thb_Con_WTB_3.96_PCB_THT_6450xx114822_pf2.jpg" title="Enlarge picture"> / <img src="http://katalog.we-online.de/media/thumbs2/eican/thb_Con_WTB_3.96_PCB_THT_6450xx114822_pf2.jpg"  width="320"></a><p> / Details see: <a href="http://katalog.we-online.de/en/em/645_0xx_114_822">http://katalog.we-online.de/en/em/645_0xx_114_822</a><p> / Created 2014-06-05, Karrer Zheng<br> / 2014 (C) Würth Elektronik
footprint 645008114822
pins: 1, 2, 3, 4, 5, 6, 7, 8

## 645008117322
designator J?, comment <b> WR-WTB 3.96mm Male Right Locking Header, 8 Pins</b>=>Code : Con_WTB_3.96_PCB_THT_645008117322 / <br><a href="http://katalog.we-online.de/media/thumbs2/eican/thb_Con_WTB_3.96_PCB_THT_6450xx117322_pf2.jpg" title="Enlarge picture"> / <img src="http://katalog.we-online.de/media/thumbs2/eican/thb_Con_WTB_3.96_PCB_THT_6450xx117322_pf2.jpg"  width="320"></a><p> / Details see: <a href="http://katalog.we-online.de/en/em/645_0xx_117_322">http://katalog.we-online.de/en/em/645_0xx_117_322</a><p> / Created 2014-06-05, Karrer Zheng<br> / 2014 (C) Würth Elektronik
footprint 645008117322
pins: 1, 2, 3, 4, 5, 6, 7, 8

## 645010114822
designator J?, comment <b> WR-WTB 3.96mm Male Locking Header, 10 Pins</b>=>Code : Con_WTB_3.96_PCB_THT_645010114822 / <br><a href="http://katalog.we-online.de/media/thumbs2/eican/thb_Con_WTB_3.96_PCB_THT_6450xx114822_pf2.jpg" title="Enlarge picture"> / <img src="http://katalog.we-online.de/media/thumbs2/eican/thb_Con_WTB_3.96_PCB_THT_6450xx114822_pf2.jpg"  width="320"></a><p> / Details see: <a href="http://katalog.we-online.de/en/em/645_0xx_114_822">http://katalog.we-online.de/en/em/645_0xx_114_822</a><p> / Created 2014-06-05, Karrer Zheng<br> / 2014 (C) Würth Elektronik
footprint 645010114822
pins: 1, 2, 3, 4, 5, 6, 7, 8, 9, 10

## 645010117322
designator J?, comment <b> WR-WTB 3.96mm Male Right Locking Header, 10 Pins</b>=>Code : Con_WTB_3.96_PCB_THT_645010117322 / <br><a href="http://katalog.we-online.de/media/thumbs2/eican/thb_Con_WTB_3.96_PCB_THT_6450xx117322_pf2.jpg" title="Enlarge picture"> / <img src="http://katalog.we-online.de/media/thumbs2/eican/thb_Con_WTB_3.96_PCB_THT_6450xx117322_pf2.jpg"  width="320"></a><p> / Details see: <a href="http://katalog.we-online.de/en/em/645_0xx_117_322">http://katalog.we-online.de/en/em/645_0xx_117_322</a><p> / Created 2014-06-05, Karrer Zheng<br> / 2014 (C) Würth Elektronik
footprint 645010117322
pins: 1, 2, 3, 4, 5, 6, 7, 8, 9, 10

## 648002117322
designator J?, comment <b> WR-WTB 1.50mm Male Horizontal Shrouded Header, 2 Pins</b>=>Code : Con_WTB_1.50_PCB_THT_648002117322 / <br><a href="http://katalog.we-online.de/media/thumbs2/eican/thb_Con_WTB_1.50_PCB_THT_6480xx117322_pf2.jpg" title="Enlarge picture"> / <img src="http://katalog.we-online.de/media/thumbs2/eican/thb_Con_WTB_1.50_PCB_THT_6480xx117322_pf2.jpg"  width="320"></a><p> / Details see: <a href="http://katalog.we-online.de/en/em/648_0xx_117_322">http://katalog.we-online.de/en/em/648_0xx_117_322</a><p> / Created 2014-06-06, Karrer Zheng<br> / 2014 (C) Würth Elektronik
footprint 648002117322
pins: 1, 2

## 648003117322
designator J?, comment <b> WR-WTB 1.50mm Male Horizontal Shrouded Header, 3 Pins</b>=>Code : Con_WTB_1.50_PCB_THT_648003117322 / <br><a href="http://katalog.we-online.de/media/thumbs2/eican/thb_Con_WTB_1.50_PCB_THT_6480xx117322_pf2.jpg" title="Enlarge picture"> / <img src="http://katalog.we-online.de/media/thumbs2/eican/thb_Con_WTB_1.50_PCB_THT_6480xx117322_pf2.jpg"  width="320"></a><p> / Details see: <a href="http://katalog.we-online.de/en/em/648_0xx_117_322">http://katalog.we-online.de/en/em/648_0xx_117_322</a><p> / Created 2014-06-06, Karrer Zheng<br> / 2014 (C) Würth Elektronik
footprint 648003117322
pins: 1, 2, 3

## 648004117322
designator J?, comment <b> WR-WTB 1.50mm Male Horizontal Shrouded Header, 4 Pins</b>=>Code : Con_WTB_1.50_PCB_THT_648004117322 / <br><a href="http://katalog.we-online.de/media/thumbs2/eican/thb_Con_WTB_1.50_PCB_THT_6480xx117322_pf2.jpg" title="Enlarge picture"> / <img src="http://katalog.we-online.de/media/thumbs2/eican/thb_Con_WTB_1.50_PCB_THT_6480xx117322_pf2.jpg"  width="320"></a><p> / Details see: <a href="http://katalog.we-online.de/en/em/648_0xx_117_322">http://katalog.we-online.de/en/em/648_0xx_117_322</a><p> / Created 2014-06-06, Karrer Zheng<br> / 2014 (C) Würth Elektronik
footprint 648004117322
pins: 1, 2, 3, 4

## 648005117322
designator J?, comment <b> WR-WTB 1.50mm Male Horizontal Shrouded Header, 5 Pins</b>=>Code : Con_WTB_1.50_PCB_THT_648005117322 / <br><a href="http://katalog.we-online.de/media/thumbs2/eican/thb_Con_WTB_1.50_PCB_THT_6480xx117322_pf2.jpg" title="Enlarge picture"> / <img src="http://katalog.we-online.de/media/thumbs2/eican/thb_Con_WTB_1.50_PCB_THT_6480xx117322_pf2.jpg"  width="320"></a><p> / Details see: <a href="http://katalog.we-online.de/en/em/648_0xx_117_322">http://katalog.we-online.de/en/em/648_0xx_117_322</a><p> / Created 2014-06-06, Karrer Zheng<br> / 2014 (C) Würth Elektronik
footprint 648005117322
pins: 1, 2, 3, 4, 5

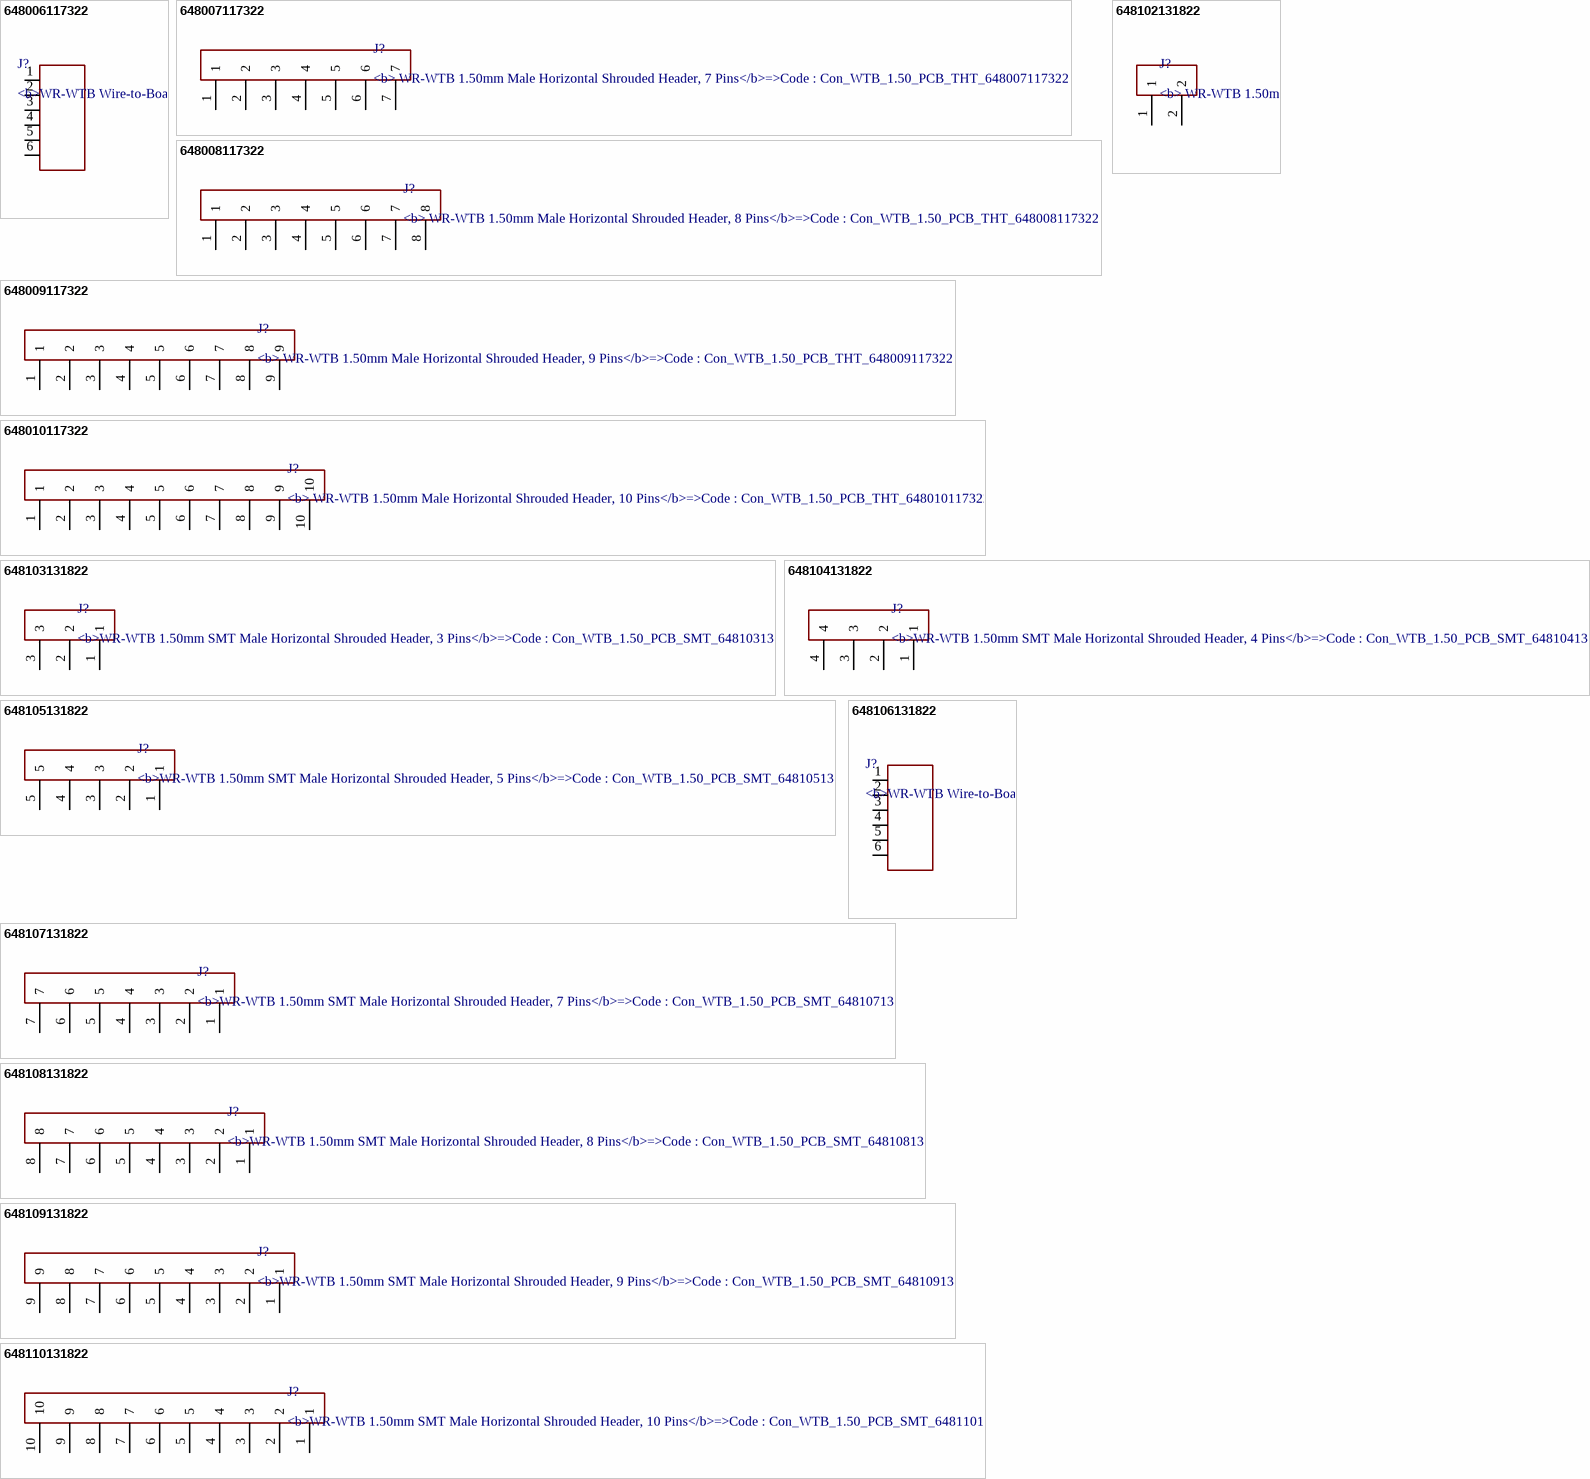
[diagram p43: symbols 648006117322 to 648110131822]

## 648006117322
designator J?, comment <b>WR-WTB Wire-to-Board Connectors 1.50 mm - 6 Pins;</b>=>Code : Con_WTB_1.50_PCB_THT_6480xx117322_648006117322 / <p><a href="http://katalog.we-online.de/media/images/eican/Con_WTB_1.50_PCB_THT_6480xx117322_pf2.jpg"> / <img src="http://katalog.we-online.de/media/thumbs2/eican/thb_Con_WTB_1.50_PCB_THT_6480xx117322_pf2.jpg" width="320"></a><p> / <p>Details see: <a href="http://katalog.we-online.de/em/datasheet/6480xx117322.pdf">http://katalog.we-online.de/em/datasheet/6480xx117322.pdf</a> / <p>Created 11/27/2014, Karrer Zheng / <p>2014 (C) Wurth Elektronik
footprint 648006117322
pins: 1, 2, 3, 4, 5, 6

## 648007117322
designator J?, comment <b> WR-WTB 1.50mm Male Horizontal Shrouded Header, 7 Pins</b>=>Code : Con_WTB_1.50_PCB_THT_648007117322 / <br><a href="http://katalog.we-online.de/media/thumbs2/eican/thb_Con_WTB_1.50_PCB_THT_6480xx117322_pf2.jpg" title="Enlarge picture"> / <img src="http://katalog.we-online.de/media/thumbs2/eican/thb_Con_WTB_1.50_PCB_THT_6480xx117322_pf2.jpg"  width="320"></a><p> / Details see: <a href="http://katalog.we-online.de/en/em/648_0xx_117_322">http://katalog.we-online.de/en/em/648_0xx_117_322</a><p> / Created 2014-06-06, Karrer Zheng<br> / 2014 (C) Würth Elektronik
footprint 648007117322
pins: 1, 2, 3, 4, 5, 6, 7

## 648008117322
designator J?, comment <b> WR-WTB 1.50mm Male Horizontal Shrouded Header, 8 Pins</b>=>Code : Con_WTB_1.50_PCB_THT_648008117322 / <br><a href="http://katalog.we-online.de/media/thumbs2/eican/thb_Con_WTB_1.50_PCB_THT_6480xx117322_pf2.jpg" title="Enlarge picture"> / <img src="http://katalog.we-online.de/media/thumbs2/eican/thb_Con_WTB_1.50_PCB_THT_6480xx117322_pf2.jpg"  width="320"></a><p> / Details see: <a href="http://katalog.we-online.de/en/em/648_0xx_117_322">http://katalog.we-online.de/en/em/648_0xx_117_322</a><p> / Created 2014-06-06, Karrer Zheng<br> / 2014 (C) Würth Elektronik
footprint 648008117322
pins: 1, 2, 3, 4, 5, 6, 7, 8

## 648009117322
designator J?, comment <b> WR-WTB 1.50mm Male Horizontal Shrouded Header, 9 Pins</b>=>Code : Con_WTB_1.50_PCB_THT_648009117322 / <br><a href="http://katalog.we-online.de/media/thumbs2/eican/thb_Con_WTB_1.50_PCB_THT_6480xx117322_pf2.jpg" title="Enlarge picture"> / <img src="http://katalog.we-online.de/media/thumbs2/eican/thb_Con_WTB_1.50_PCB_THT_6480xx117322_pf2.jpg"  width="320"></a><p> / Details see: <a href="http://katalog.we-online.de/en/em/648_0xx_117_322">http://katalog.we-online.de/en/em/648_0xx_117_322</a><p> / Created 2014-06-06, Karrer Zheng<br> / 2014 (C) Würth Elektronik
footprint 648009117322
pins: 1, 2, 3, 4, 5, 6, 7, 8, 9

## 648010117322
designator J?, comment <b> WR-WTB 1.50mm Male Horizontal Shrouded Header, 10 Pins</b>=>Code : Con_WTB_1.50_PCB_THT_648010117322 / <br><a href="http://katalog.we-online.de/media/thumbs2/eican/thb_Con_WTB_1.50_PCB_THT_6480xx117322_pf2.jpg" title="Enlarge picture"> / <img src="http://katalog.we-online.de/media/thumbs2/eican/thb_Con_WTB_1.50_PCB_THT_6480xx117322_pf2.jpg"  width="320"></a><p> / Details see: <a href="http://katalog.we-online.de/en/em/648_0xx_117_322">http://katalog.we-online.de/en/em/648_0xx_117_322</a><p> / Created 2014-06-06, Karrer Zheng<br> / 2014 (C) Würth Elektronik
footprint 648010117322
pins: 1, 2, 3, 4, 5, 6, 7, 8, 9, 10

## 648102131822
designator J?, comment <b> WR-WTB 1.50mm SMT Male Horizontal Shrouded Header, 2 Pins</b>=>Code : Con_WTB_1.50_PCB_SMT_648102131822 / <br><a href="http://katalog.we-online.de/media/thumbs2/eican/thb_Con_WTB_1.50_PCB_SMT_6481xx131822_pf2.jpg" title="Enlarge picture"> / <img src="http://katalog.we-online.de/media/thumbs2/eican/thb_Con_WTB_1.50_PCB_SMT_6481xx131822_pf2.jpg"  width="320"></a><p> / Details see: <a href="http://katalog.we-online.de/en/em/648_1xx_131_822">http://katalog.we-online.de/en/em/648_1xx_131_822</a><p> / Created 2014-06-06, Karrer Zheng<br> / 2014 (C) Würth Elektronik
footprint 648102131822
pins: 1, 2

## 648103131822
designator J?, comment <b>WR-WTB 1.50mm SMT Male Horizontal Shrouded Header, 3 Pins</b>=>Code : Con_WTB_1.50_PCB_SMT_648103131822 / <br><a href="http://katalog.we-online.de/media/thumbs2/eican/thb_Con_WTB_1.50_PCB_SMT_6481xx131822_pf2.jpg" title="Enlarge picture"> / <img src="http://katalog.we-online.de/media/thumbs2/eican/thb_Con_WTB_1.50_PCB_SMT_6481xx131822_pf2.jpg"  width="320"></a><p> / Details see: <a href="http://katalog.we-online.de/en/em/648_1xx_131_822">http://katalog.we-online.de/en/em/648_1xx_131_822</a><p> / Created 2014-06-06, Karrer Zheng<br> / 2014 (C) Würth Elektronik
footprint 648103131822
pins: 1, 2, 3

## 648104131822
designator J?, comment <b>WR-WTB 1.50mm SMT Male Horizontal Shrouded Header, 4 Pins</b>=>Code : Con_WTB_1.50_PCB_SMT_648104131822 / <br><a href="http://katalog.we-online.de/media/thumbs2/eican/thb_Con_WTB_1.50_PCB_SMT_6481xx131822_pf2.jpg" title="Enlarge picture"> / <img src="http://katalog.we-online.de/media/thumbs2/eican/thb_Con_WTB_1.50_PCB_SMT_6481xx131822_pf2.jpg"  width="320"></a><p> / Details see: <a href="http://katalog.we-online.de/en/em/648_1xx_131_822">http://katalog.we-online.de/en/em/648_1xx_131_822</a><p> / Created 2014-06-06, Karrer Zheng<br> / 2014 (C) Würth Elektronik
footprint 648104131822
pins: 1, 2, 3, 4

## 648105131822
designator J?, comment <b>WR-WTB 1.50mm SMT Male Horizontal Shrouded Header, 5 Pins</b>=>Code : Con_WTB_1.50_PCB_SMT_648105131822 / <br><a href="http://katalog.we-online.de/media/thumbs2/eican/thb_Con_WTB_1.50_PCB_SMT_6481xx131822_pf2.jpg" title="Enlarge picture"> / <img src="http://katalog.we-online.de/media/thumbs2/eican/thb_Con_WTB_1.50_PCB_SMT_6481xx131822_pf2.jpg"  width="320"></a><p> / Details see: <a href="http://katalog.we-online.de/en/em/648_1xx_131_822">http://katalog.we-online.de/en/em/648_1xx_131_822</a><p> / Created 2014-06-06, Karrer Zheng<br> / 2014 (C) Würth Elektronik
footprint 648105131822
pins: 1, 2, 3, 4, 5

## 648106131822
designator J?, comment <b>WR-WTB Wire-to-Board Connectors 1.50 mm - 6 Pins;</b>=>Code :  _648106131822 / <p><a href="http://katalog.we-online.de/media/images/eican/"> / <img src="http://katalog.we-online.de/media/thumbs2/eican/" width="320"></a><p> / <p>Details see: <a href="http://katalog.we-online.de/em/datasheet/6481xx131822.pdf">http://katalog.we-online.de/em/datasheet/6481xx131822.pdf</a> / <p>Created 11/27/2014, Karrer Zheng / <p>2014 (C) Wurth Elektronik
footprint 648106131822
pins: 1, 2, 3, 4, 5, 6

## 648107131822
designator J?, comment <b>WR-WTB 1.50mm SMT Male Horizontal Shrouded Header, 7 Pins</b>=>Code : Con_WTB_1.50_PCB_SMT_648107131822 / <br><a href="http://katalog.we-online.de/media/thumbs2/eican/thb_Con_WTB_1.50_PCB_SMT_6481xx131822_pf2.jpg" title="Enlarge picture"> / <img src="http://katalog.we-online.de/media/thumbs2/eican/thb_Con_WTB_1.50_PCB_SMT_6481xx131822_pf2.jpg"  width="320"></a><p> / Details see: <a href="http://katalog.we-online.de/en/em/648_1xx_131_822">http://katalog.we-online.de/en/em/648_1xx_131_822</a><p> / Created 2014-06-06, Karrer Zheng<br> / 2014 (C) Würth Elektronik
footprint 648107131822
pins: 1, 2, 3, 4, 5, 6, 7

## 648108131822
designator J?, comment <b>WR-WTB 1.50mm SMT Male Horizontal Shrouded Header, 8 Pins</b>=>Code : Con_WTB_1.50_PCB_SMT_648108131822 / <br><a href="http://katalog.we-online.de/media/thumbs2/eican/thb_Con_WTB_1.50_PCB_SMT_6481xx131822_pf2.jpg" title="Enlarge picture"> / <img src="http://katalog.we-online.de/media/thumbs2/eican/thb_Con_WTB_1.50_PCB_SMT_6481xx131822_pf2.jpg"  width="320"></a><p> / Details see: <a href="http://katalog.we-online.de/en/em/648_1xx_131_822">http://katalog.we-online.de/en/em/648_1xx_131_822</a><p> / Created 2014-06-06, Karrer Zheng<br> / 2014 (C) Würth Elektronik
footprint 648108131822
pins: 1, 2, 3, 4, 5, 6, 7, 8

## 648109131822
designator J?, comment <b>WR-WTB 1.50mm SMT Male Horizontal Shrouded Header, 9 Pins</b>=>Code : Con_WTB_1.50_PCB_SMT_648109131822 / <br><a href="http://katalog.we-online.de/media/thumbs2/eican/thb_Con_WTB_1.50_PCB_SMT_6481xx131822_pf2.jpg" title="Enlarge picture"> / <img src="http://katalog.we-online.de/media/thumbs2/eican/thb_Con_WTB_1.50_PCB_SMT_6481xx131822_pf2.jpg"  width="320"></a><p> / Details see: <a href="http://katalog.we-online.de/en/em/648_1xx_131_822">http://katalog.we-online.de/en/em/648_1xx_131_822</a><p> / Created 2014-06-06, Karrer Zheng<br> / 2014 (C) Würth Elektronik
footprint 648109131822
pins: 1, 2, 3, 4, 5, 6, 7, 8, 9

## 648110131822
designator J?, comment <b>WR-WTB 1.50mm SMT Male Horizontal Shrouded Header, 10 Pins</b>=>Code : Con_WTB_1.50_PCB_SMT_648110131822 / <br><a href="http://katalog.we-online.de/media/thumbs2/eican/thb_Con_WTB_1.50_PCB_SMT_6481xx131822_pf2.jpg" title="Enlarge picture"> / <img src="http://katalog.we-online.de/media/thumbs2/eican/thb_Con_WTB_1.50_PCB_SMT_6481xx131822_pf2.jpg"  width="320"></a><p> / Details see: <a href="http://katalog.we-online.de/en/em/648_1xx_131_822">http://katalog.we-online.de/en/em/648_1xx_131_822</a><p> / Created 2014-06-06, Karrer Zheng<br> / 2014 (C) Würth Elektronik
footprint 648110131822
pins: 1, 2, 3, 4, 5, 6, 7, 8, 9, 10

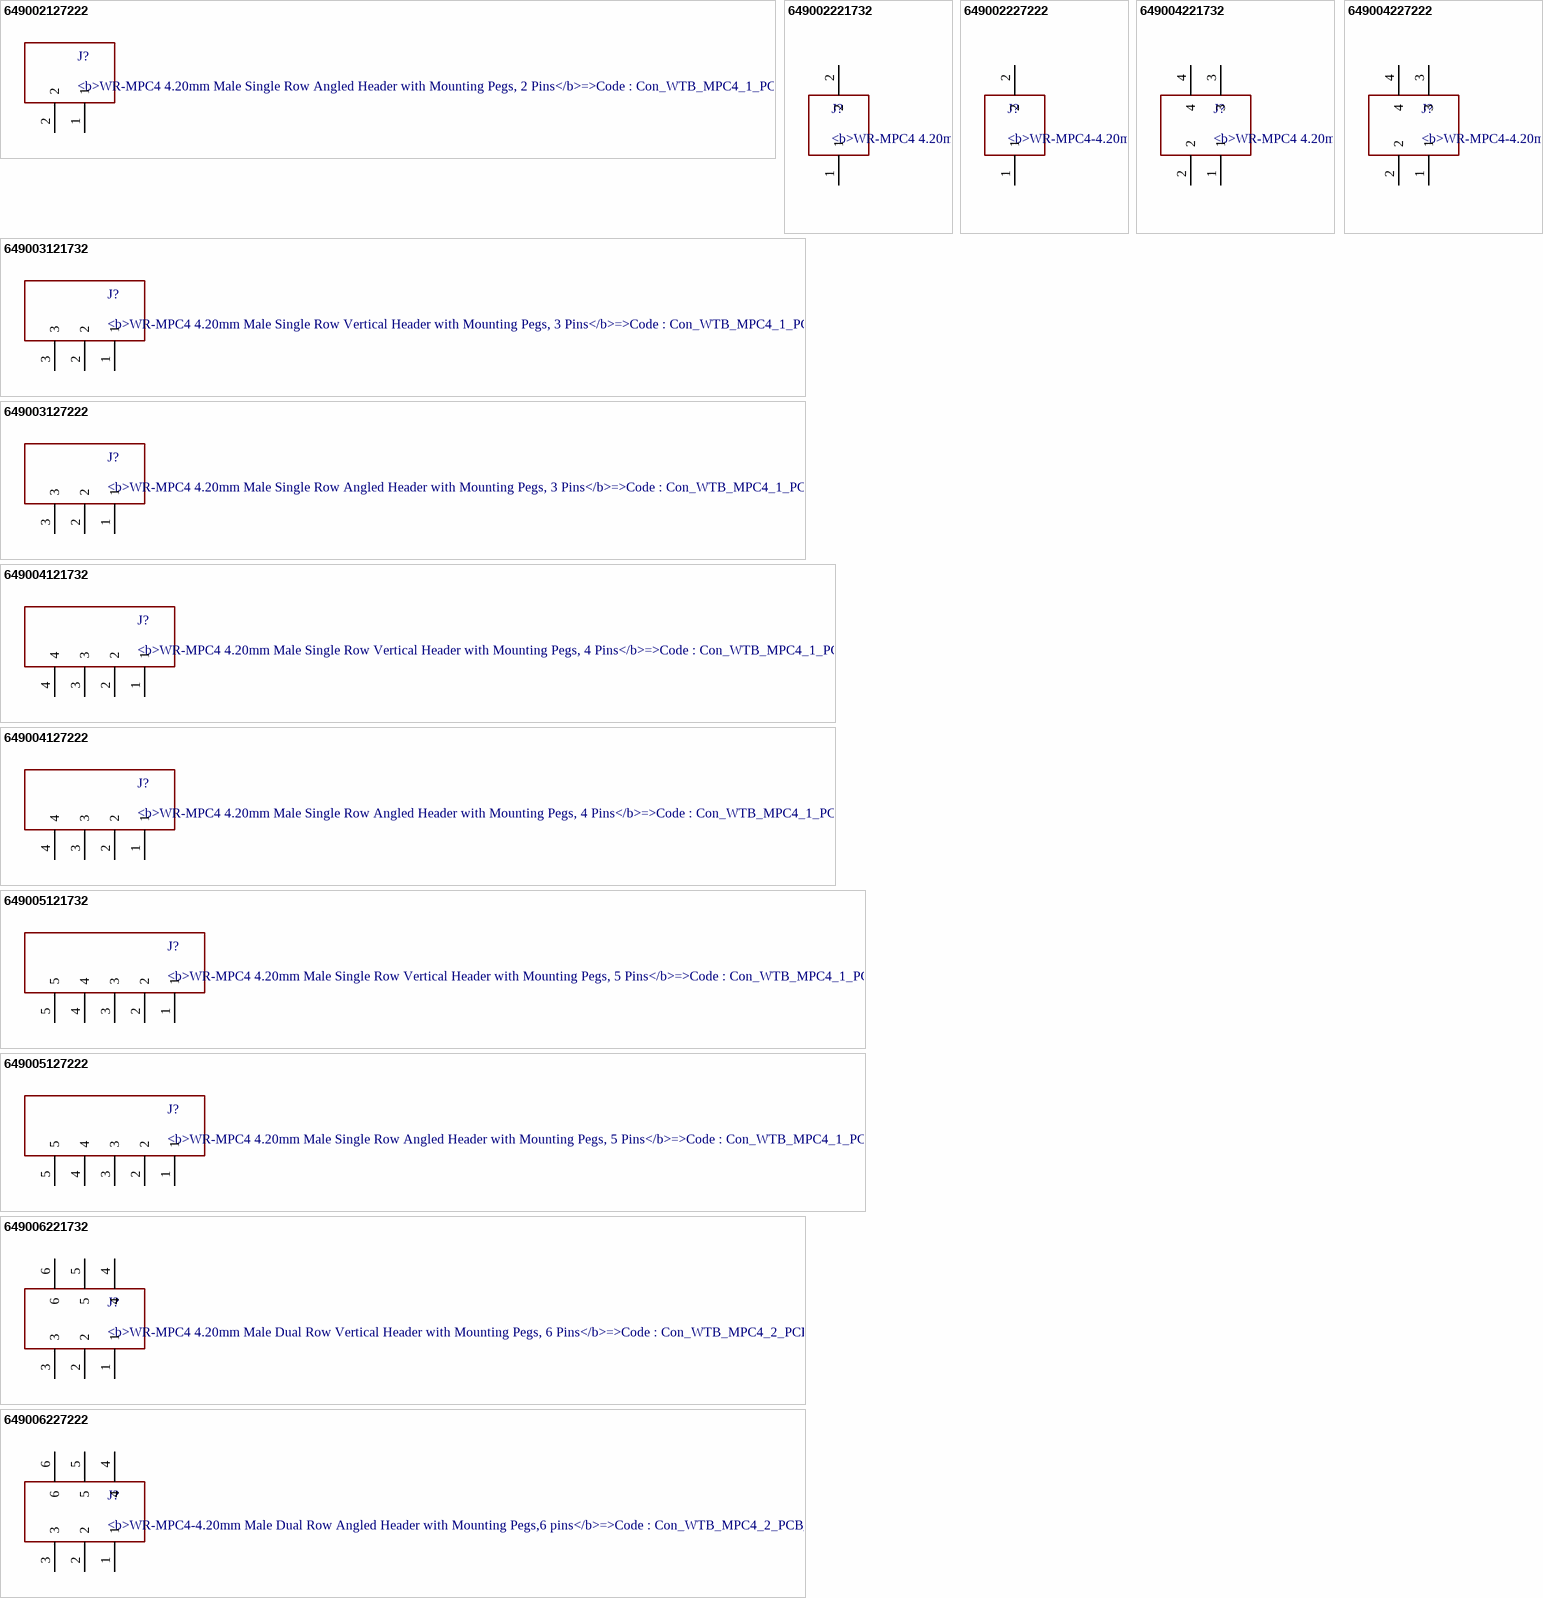
[diagram p44: symbols 649002127222 to 649006227222]

## 649002127222
designator J?, comment <b>WR-MPC4 4.20mm Male Single Row Angled Header with Mounting Pegs, 2 Pins</b>=>Code : Con_WTB_MPC4_1_PCB_649002127222 / <br><a href="http://katalog.we-online.de/media/thumbs2/eican/thb_Con_WTB_MPC4_1_PCB_6490xx127222_pf2.jpg" title="Enlarge picture"> / <img src="http://katalog.we-online.de/media/thumbs2/eican/thb_Con_WTB_MPC4_1_PCB_6490xx127222_pf2.jpg"  width="320"></a><p> / Details see: <a href="http://katalog.we-online.de/en/em/649_0xx_127_222">http://katalog.we-online.de/en/em/649_0xx_127_222</a><p> / Created 2014-06-06, Karrer Zheng<br> / 2014 (C) Würth Elektronik
footprint 649002127222
pins: 1, 2

## 649002221732
designator J?, comment <b>WR-MPC4 4.20mm Male Dual Row Vertical Header with Mounting Pegs, 2 Pins</b>=>Code : Con_WTB_MPC4_2_PCB_649002221732 / <br><a href="http://katalog.we-online.de/media/thumbs2/eican/thb_Con_WTB_MPC4_2_PCB_6490xx221732_pf2.jpg" title="Enlarge picture"> / <img src="http://katalog.we-online.de/media/thumbs2/eican/thb_Con_WTB_MPC4_2_PCB_6490xx221732_pf2.jpg"  width="320"></a><p> / Details see: <a href="http://katalog.we-online.de/en/em/649_0xx_221_732">http://katalog.we-online.de/en/em/649_0xx_221_732</a><p> / Created 2014-06-06, Karrer Zheng<br> / 2014 (C) Würth Elektronik
footprint 649002221732
pins: 1, 2

## 649002227222
designator J?, comment <b>WR-MPC4-4.20mm Male Dual Row Angled Header with Mounting Pegs,2 pins</b>=>Code : Con_WTB_MPC4_2_PCB_649002227222 / <br><a href="http://katalog.we-online.de/media/thumbs2/eican/thb_Con_WTB_MPC4_2_PCB_6490xx227222_pf2.jpg" title="Enlarge picture"> / <img src="http://katalog.we-online.de/media/thumbs2/eican/thb_Con_WTB_MPC4_2_PCB_6490xx227222_pf2.jpg"  width="320"></a><p> / Details see: <a href="http://katalog.we-online.de/en/em/649_0xx_227_222">http://katalog.we-online.de/en/em/649_0xx_227_222</a><p> / Created 2014-06-06, Karrer Zheng<br> / 2014 (C) Würth Elektronik
footprint 649002227222
pins: 1, 2

## 649003121732
designator J?, comment <b>WR-MPC4 4.20mm Male Single Row Vertical Header with Mounting Pegs, 3 Pins</b>=>Code : Con_WTB_MPC4_1_PCB_649003121732 / <br><a href="http://katalog.we-online.de/media/thumbs2/eican/thb_Con_WTB_MPC4_1_PCB_6490xx121732_pf2.jpg" title="Enlarge picture"> / <img src="http://katalog.we-online.de/media/thumbs2/eican/thb_Con_WTB_MPC4_1_PCB_6490xx121732_pf2.jpg"  width="320"></a><p> / Details see: <a href="http://katalog.we-online.de/en/em/649_0xx_121_732">http://katalog.we-online.de/en/em/649_0xx_121_732</a><p> / Created 2014-06-06, Karrer Zheng<br> / 2014 (C) Würth Elektronik
footprint 649003121732
pins: 1, 2, 3

## 649003127222
designator J?, comment <b>WR-MPC4 4.20mm Male Single Row Angled Header with Mounting Pegs, 3 Pins</b>=>Code : Con_WTB_MPC4_1_PCB_649003127222 / <br><a href="http://katalog.we-online.de/media/thumbs2/eican/thb_Con_WTB_MPC4_1_PCB_6490xx127222_pf2.jpg" title="Enlarge picture"> / <img src="http://katalog.we-online.de/media/thumbs2/eican/thb_Con_WTB_MPC4_1_PCB_6490xx127222_pf2.jpg"  width="320"></a><p> / Details see: <a href="http://katalog.we-online.de/en/em/649_0xx_127_222">http://katalog.we-online.de/en/em/649_0xx_127_222</a><p> / Created 2014-06-06, Karrer Zheng<br> / 2014 (C) Würth Elektronik
footprint 649003127222
pins: 1, 2, 3

## 649004121732
designator J?, comment <b>WR-MPC4 4.20mm Male Single Row Vertical Header with Mounting Pegs, 4 Pins</b>=>Code : Con_WTB_MPC4_1_PCB_649004121732 / <br><a href="http://katalog.we-online.de/media/thumbs2/eican/thb_Con_WTB_MPC4_1_PCB_6490xx121732_pf2.jpg" title="Enlarge picture"> / <img src="http://katalog.we-online.de/media/thumbs2/eican/thb_Con_WTB_MPC4_1_PCB_6490xx121732_pf2.jpg"  width="320"></a><p> / Details see: <a href="http://katalog.we-online.de/en/em/649_0xx_121_732">http://katalog.we-online.de/en/em/649_0xx_121_732</a><p> / Created 2014-06-06, Karrer Zheng<br> / 2014 (C) Würth Elektronik
footprint 649004121732
pins: 1, 2, 3, 4

## 649004127222
designator J?, comment <b>WR-MPC4 4.20mm Male Single Row Angled Header with Mounting Pegs, 4 Pins</b>=>Code : Con_WTB_MPC4_1_PCB_649004127222 / <br><a href="http://katalog.we-online.de/media/thumbs2/eican/thb_Con_WTB_MPC4_1_PCB_6490xx127222_pf2.jpg" title="Enlarge picture"> / <img src="http://katalog.we-online.de/media/thumbs2/eican/thb_Con_WTB_MPC4_1_PCB_6490xx127222_pf2.jpg"  width="320"></a><p> / Details see: <a href="http://katalog.we-online.de/en/em/649_0xx_127_222">http://katalog.we-online.de/en/em/649_0xx_127_222</a><p> / Created 2014-06-06, Karrer Zheng<br> / 2014 (C) Würth Elektronik
footprint 649004127222
pins: 1, 2, 3, 4

## 649004221732
designator J?, comment <b>WR-MPC4 4.20mm Male Dual Row Vertical Header with Mounting Pegs, 4 Pins</b>=>Code : Con_WTB_MPC4_2_PCB_649004221732 / <br><a href="http://katalog.we-online.de/media/thumbs2/eican/thb_Con_WTB_MPC4_2_PCB_6490xx221732_pf2.jpg" title="Enlarge picture"> / <img src="http://katalog.we-online.de/media/thumbs2/eican/thb_Con_WTB_MPC4_2_PCB_6490xx221732_pf2.jpg"  width="320"></a><p> / Details see: <a href="http://katalog.we-online.de/en/em/649_0xx_221_732">http://katalog.we-online.de/en/em/649_0xx_221_732</a><p> / Created 2014-06-06, Karrer Zheng<br> / 2014 (C) Würth Elektronik
footprint 649004221732
pins: 1, 2, 3, 4

## 649004227222
designator J?, comment <b>WR-MPC4-4.20mm Male Dual Row Angled Header with Mounting Pegs,4 pins</b>=>Code : Con_WTB_MPC4_2_PCB_649004227222 / <br><a href="http://katalog.we-online.de/media/thumbs2/eican/thb_Con_WTB_MPC4_2_PCB_6490xx227222_pf2.jpg" title="Enlarge picture"> / <img src="http://katalog.we-online.de/media/thumbs2/eican/thb_Con_WTB_MPC4_2_PCB_6490xx227222_pf2.jpg"  width="320"></a><p> / Details see: <a href="http://katalog.we-online.de/en/em/649_0xx_227_222">http://katalog.we-online.de/en/em/649_0xx_227_222</a><p> / Created 2014-06-06, Karrer Zheng<br> / 2014 (C) Würth Elektronik
footprint 649004227222
pins: 1, 2, 3, 4

## 649005121732
designator J?, comment <b>WR-MPC4 4.20mm Male Single Row Vertical Header with Mounting Pegs, 5 Pins</b>=>Code : Con_WTB_MPC4_1_PCB_649005121732 / <br><a href="http://katalog.we-online.de/media/thumbs2/eican/thb_Con_WTB_MPC4_1_PCB_6490xx121732_pf2.jpg" title="Enlarge picture"> / <img src="http://katalog.we-online.de/media/thumbs2/eican/thb_Con_WTB_MPC4_1_PCB_6490xx121732_pf2.jpg"  width="320"></a><p> / Details see: <a href="http://katalog.we-online.de/en/em/649_0xx_121_732">http://katalog.we-online.de/en/em/649_0xx_121_732</a><p> / Created 2014-06-06, Karrer Zheng<br> / 2014 (C) Würth Elektronik
footprint 649005121732
pins: 1, 2, 3, 4, 5

## 649005127222
designator J?, comment <b>WR-MPC4 4.20mm Male Single Row Angled Header with Mounting Pegs, 5 Pins</b>=>Code : Con_WTB_MPC4_1_PCB_649005127222 / <br><a href="http://katalog.we-online.de/media/thumbs2/eican/thb_Con_WTB_MPC4_1_PCB_6490xx127222_pf2.jpg" title="Enlarge picture"> / <img src="http://katalog.we-online.de/media/thumbs2/eican/thb_Con_WTB_MPC4_1_PCB_6490xx127222_pf2.jpg"  width="320"></a><p> / Details see: <a href="http://katalog.we-online.de/en/em/649_0xx_127_222">http://katalog.we-online.de/en/em/649_0xx_127_222</a><p> / Created 2014-06-06, Karrer Zheng<br> / 2014 (C) Würth Elektronik
footprint 649005127222
pins: 1, 2, 3, 4, 5

## 649006221732
designator J?, comment <b>WR-MPC4 4.20mm Male Dual Row Vertical Header with Mounting Pegs, 6 Pins</b>=>Code : Con_WTB_MPC4_2_PCB_649006221732 / <br><a href="http://katalog.we-online.de/media/thumbs2/eican/thb_Con_WTB_MPC4_2_PCB_6490xx221732_pf2.jpg" title="Enlarge picture"> / <img src="http://katalog.we-online.de/media/thumbs2/eican/thb_Con_WTB_MPC4_2_PCB_6490xx221732_pf2.jpg"  width="320"></a><p> / Details see: <a href="http://katalog.we-online.de/en/em/649_0xx_221_732">http://katalog.we-online.de/en/em/649_0xx_221_732</a><p> / Created 2014-06-06, Karrer Zheng<br> / 2014 (C) Würth Elektronik
footprint 649006221732
pins: 1, 2, 3, 4, 5, 6 (hiz)

## 649006227222
designator J?, comment <b>WR-MPC4-4.20mm Male Dual Row Angled Header with Mounting Pegs,6 pins</b>=>Code : Con_WTB_MPC4_2_PCB_649006227222 / <br><a href="http://katalog.we-online.de/media/thumbs2/eican/thb_Con_WTB_MPC4_2_PCB_6490xx227222_pf2.jpg" title="Enlarge picture"> / <img src="http://katalog.we-online.de/media/thumbs2/eican/thb_Con_WTB_MPC4_2_PCB_6490xx227222_pf2.jpg"  width="320"></a><p> / Details see: <a href="http://katalog.we-online.de/en/em/649_0xx_227_222">http://katalog.we-online.de/en/em/649_0xx_227_222</a><p> / Created 2014-06-06, Karrer Zheng<br> / 2014 (C) Würth Elektronik
footprint 649006227222
pins: 1, 2, 3, 4, 5, 6 (hiz)

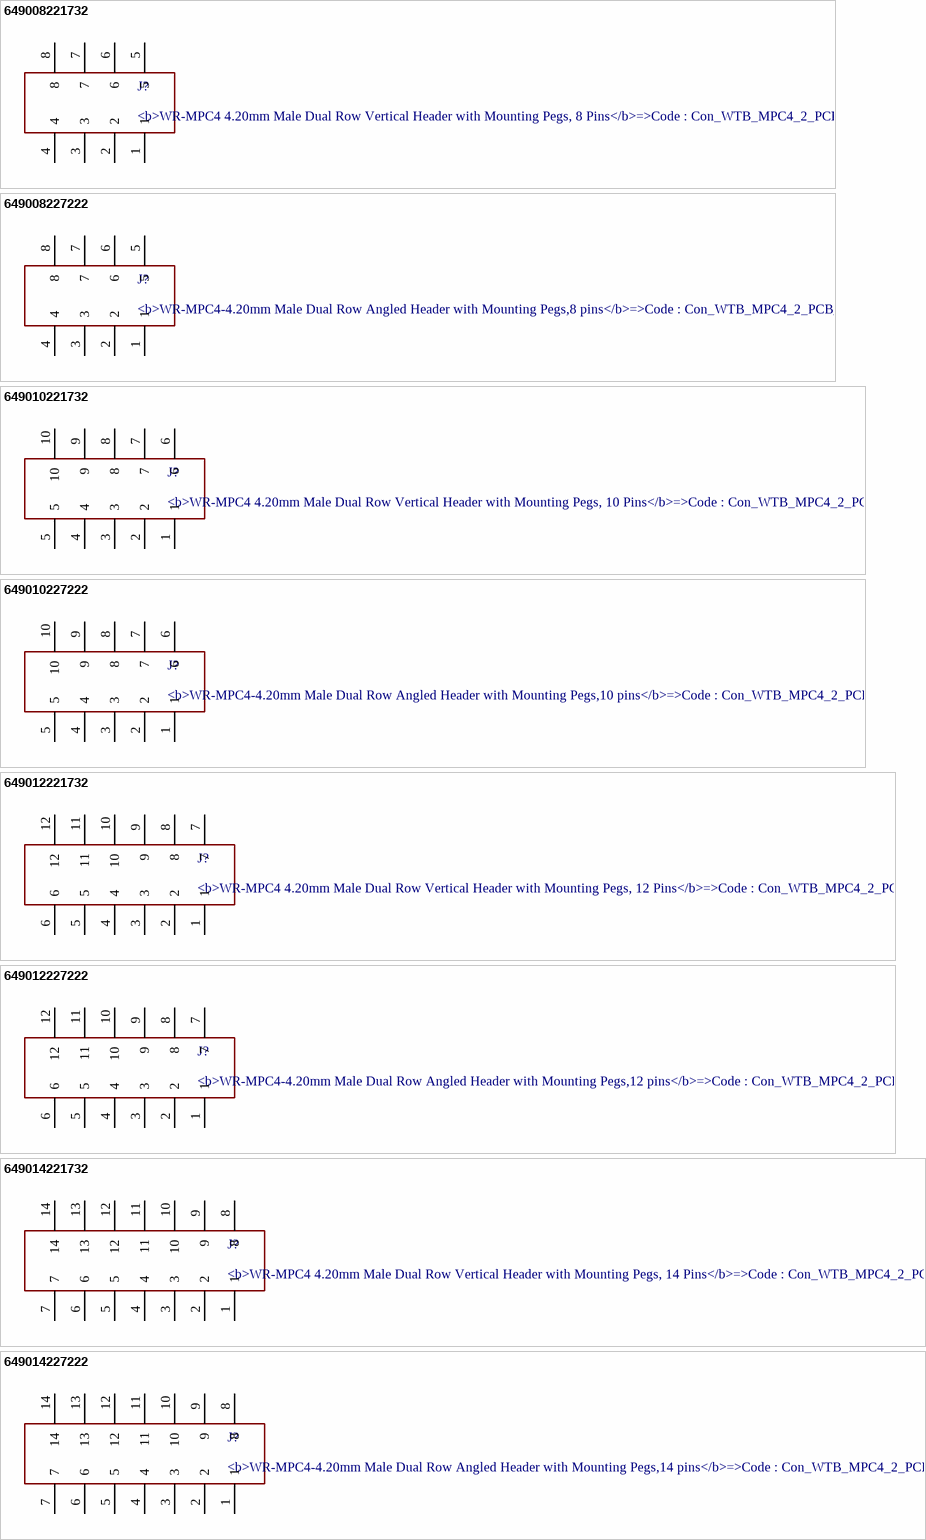
[diagram p45: symbols 649008221732 to 649014227222]